# Altium schematic symbol library Wurth_Elektronik_Electromechanic_Wire_to_Board_Connectors_rev16a.SCHLIB: 662 symbols (part 6 of 10)
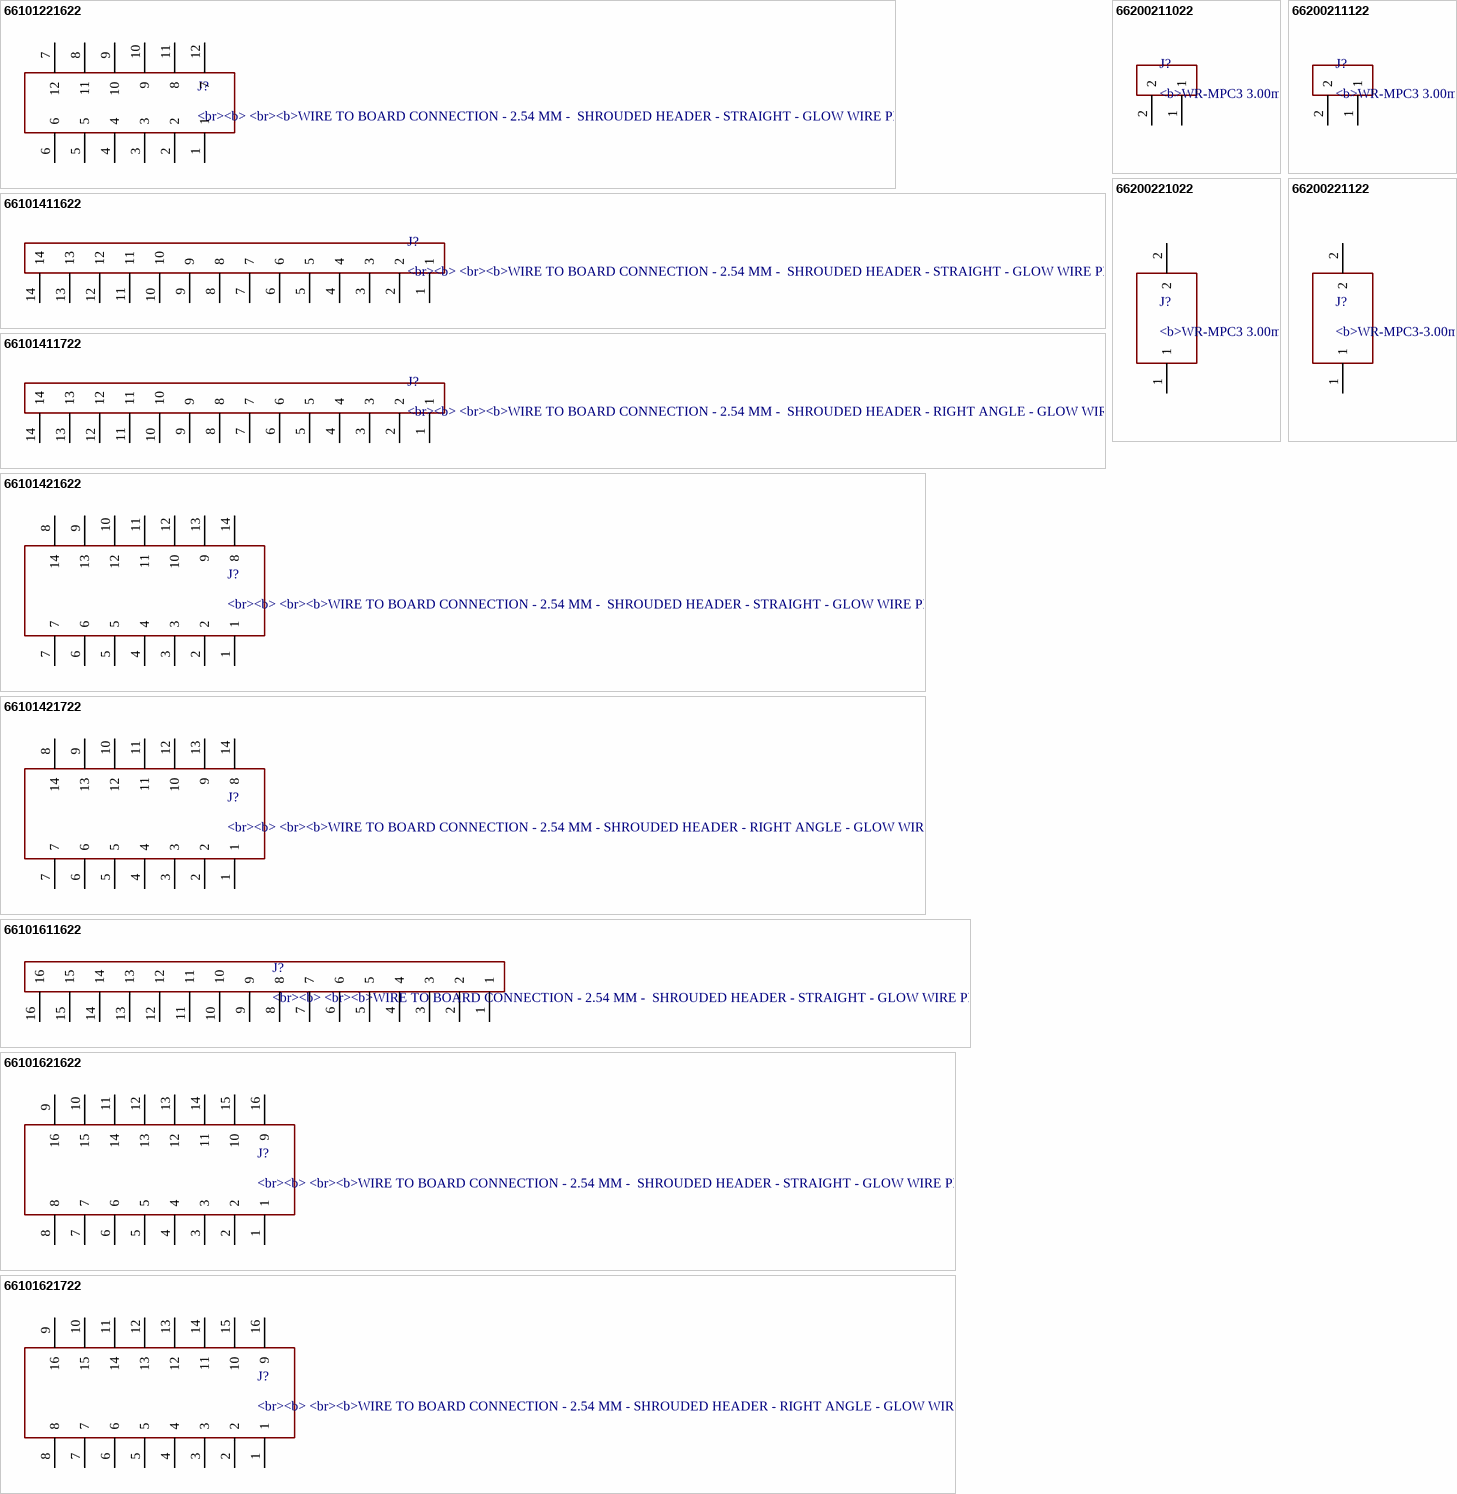
[diagram p67: symbols 66101221622 to 66200221122]

## 66200221122
designator J?, comment <b>WR-MPC3-3.00mm Male Dual Row Vertical Header,2 pins</b>=>Code : Con_WTB_MPC3_2_PCB_THT_66200221122 / <br><a href="http://katalog.we-online.de/media/thumbs2/eican/thb_Con_WTB_MPC3_2_PCB_THT_6620xx21122_pf2.jpg" title="Enlarge picture"> / <img src="http://katalog.we-online.de/media/thumbs2/eican/thb_Con_WTB_MPC3_2_PCB_THT_6620xx21122_pf2.jpg"  width="320"></a><p> / Details see: <a href="http://katalog.we-online.de/en/em/662_0xx_211_22">http://katalog.we-online.de/en/em/662_0xx_211_22</a><p> / Created 2014-06-06, Karrer Zheng<br> / 2014 (C) Würth Elektronik
footprint 66200221122
pins: 1, 2

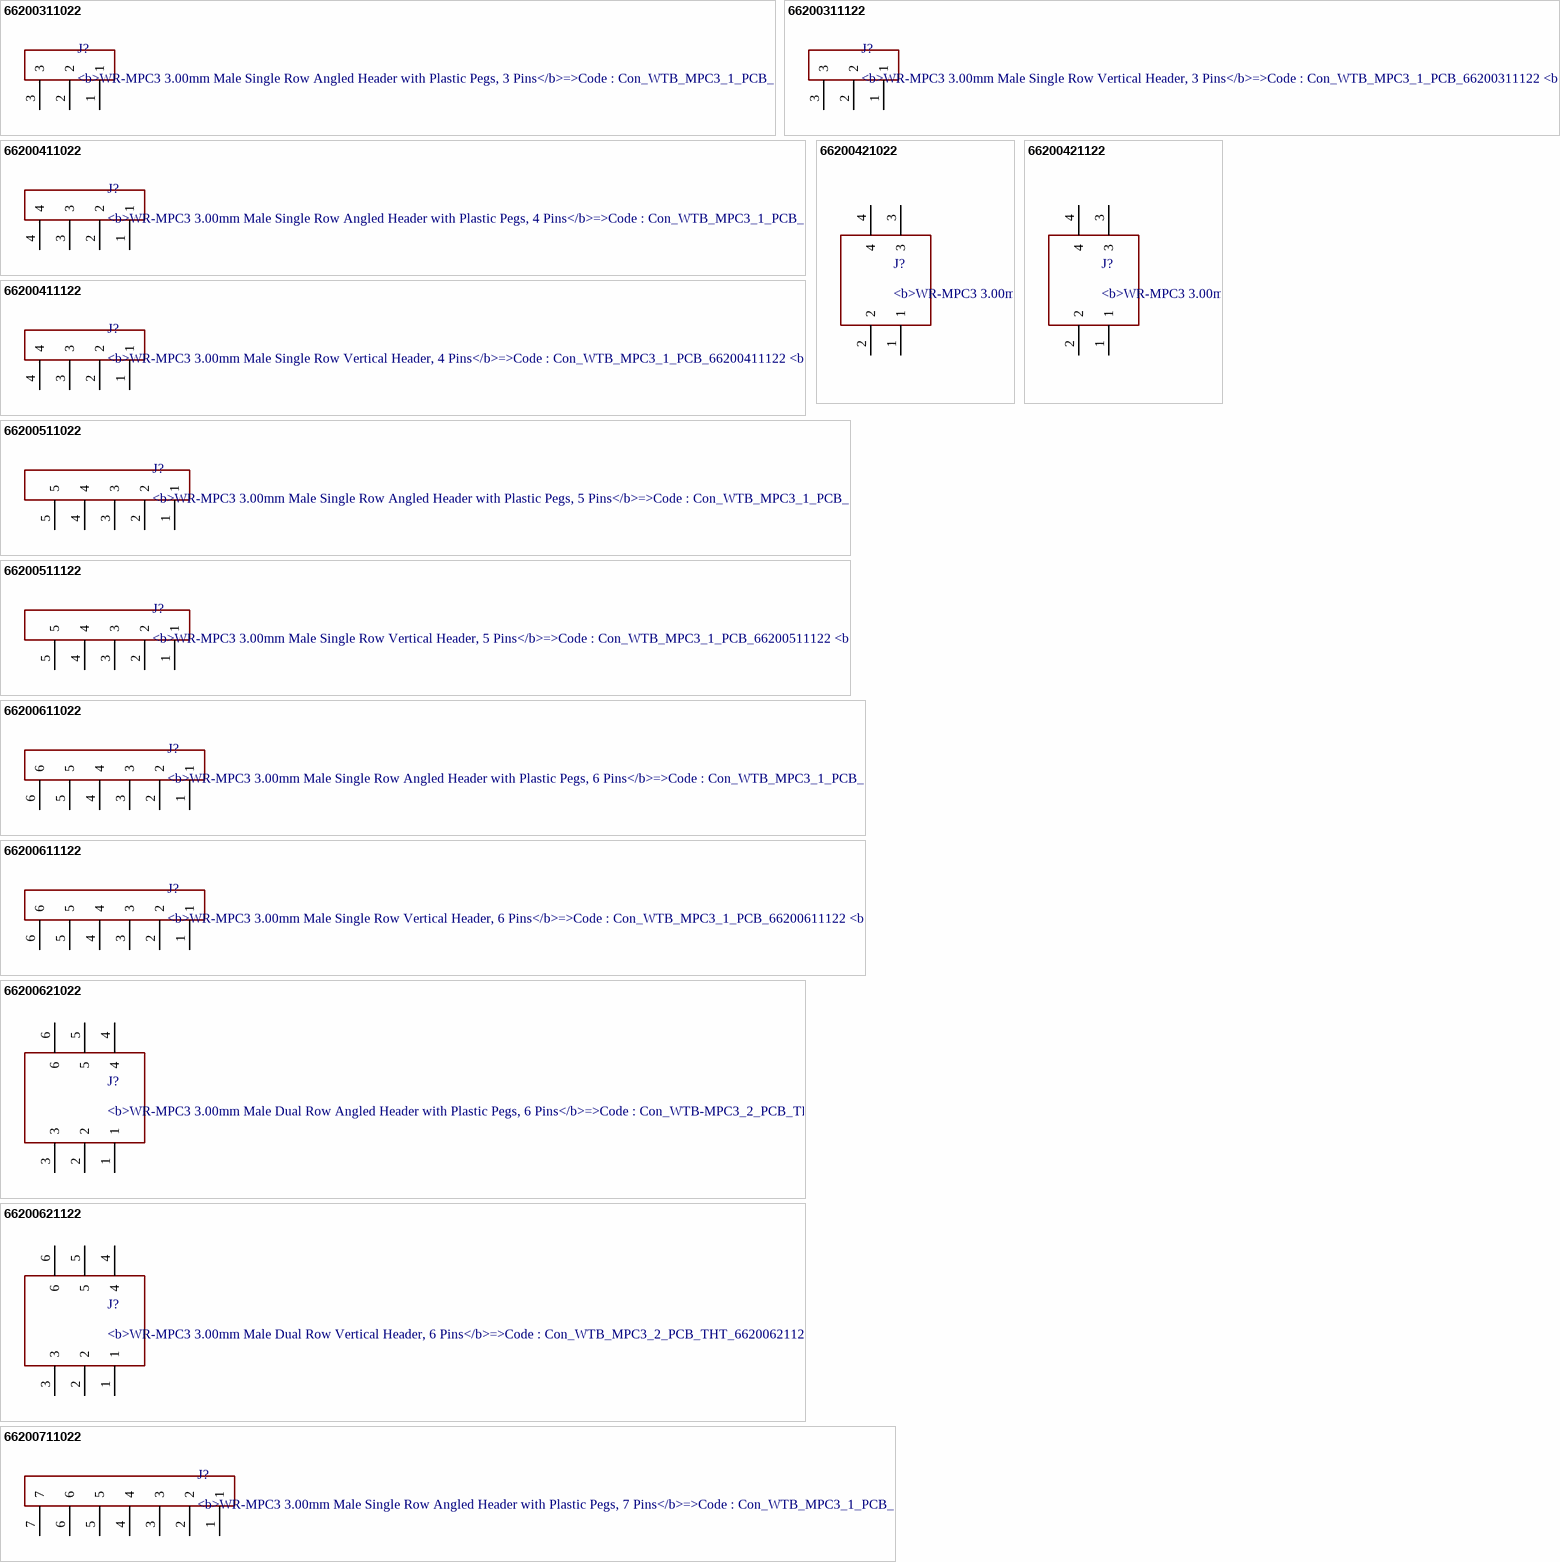
[diagram p32: symbols 66200311022 to 66200711022]

## 66200311022
designator J?, comment <b>WR-MPC3 3.00mm Male Single Row Angled Header with Plastic Pegs, 3 Pins</b>=>Code : Con_WTB_MPC3_1_PCB_66200311022 / <br><a href="http://katalog.we-online.de/media/thumbs2/eican/thb_Con_WTB_MPC3_1_PCB_6620xx11022_pf2.jpg" title="Enlarge picture"> / <img src="http://katalog.we-online.de/media/thumbs2/eican/thb_Con_WTB_MPC3_1_PCB_6620xx11022_pf2.jpg"  width="320"></a><p> / Details see: <a href="http://katalog.we-online.de/en/em/662_0xx_110_22">http://katalog.we-online.de/en/em/662_0xx_110_22</a><p> / Created 2014-06-06, Karrer Zheng<br> / 2014 (C) Würth Elektronik
footprint 66200311022
pins: 1, 2, 3

## 66200311122
designator J?, comment <b>WR-MPC3 3.00mm Male Single Row Vertical Header, 3 Pins</b>=>Code : Con_WTB_MPC3_1_PCB_66200311122 / <br><a href="http://katalog.we-online.de/media/thumbs2/eican/thb_Con_WTB_MPC3_1_PCB_6620xx11122_pf2.jpg" title="Enlarge picture"> / <img src="http://katalog.we-online.de/media/thumbs2/eican/thb_Con_WTB_MPC3_1_PCB_6620xx11122_pf2.jpg"  width="320"></a><p> / Details see: <a href="http://katalog.we-online.de/en/em/662_0xx_111_22">http://katalog.we-online.de/en/em/662_0xx_111_22</a><p> / Created 2014-06-06, Karrer Zheng<br> / 2014 (C) Würth Elektronik
footprint 66200311122
pins: 1, 2, 3

## 66200411022
designator J?, comment <b>WR-MPC3 3.00mm Male Single Row Angled Header with Plastic Pegs, 4 Pins</b>=>Code : Con_WTB_MPC3_1_PCB_66200411022 / <br><a href="http://katalog.we-online.de/media/thumbs2/eican/thb_Con_WTB_MPC3_1_PCB_6620xx11022_pf2.jpg" title="Enlarge picture"> / <img src="http://katalog.we-online.de/media/thumbs2/eican/thb_Con_WTB_MPC3_1_PCB_6620xx11022_pf2.jpg"  width="320"></a><p> / Details see: <a href="http://katalog.we-online.de/en/em/662_0xx_110_22">http://katalog.we-online.de/en/em/662_0xx_110_22</a><p> / Created 2014-06-06, Karrer Zheng<br> / 2014 (C) Würth Elektronik
footprint 66200411022
pins: 1, 2, 3, 4

## 66200411122
designator J?, comment <b>WR-MPC3 3.00mm Male Single Row Vertical Header, 4 Pins</b>=>Code : Con_WTB_MPC3_1_PCB_66200411122 / <br><a href="http://katalog.we-online.de/media/thumbs2/eican/thb_Con_WTB_MPC3_1_PCB_6620xx11122_pf2.jpg" title="Enlarge picture"> / <img src="http://katalog.we-online.de/media/thumbs2/eican/thb_Con_WTB_MPC3_1_PCB_6620xx11122_pf2.jpg"  width="320"></a><p> / Details see: <a href="http://katalog.we-online.de/en/em/662_0xx_111_22">http://katalog.we-online.de/en/em/662_0xx_111_22</a><p> / Created 2014-06-06, Karrer Zheng<br> / 2014 (C) Würth Elektronik
footprint 66200411122
pins: 1, 2, 3, 4

## 66200421022
designator J?, comment <b>WR-MPC3 3.00mm Male Dual Row Angled Header with Plastic Pegs, 4 Pins</b>=>Code : Con_WTB-MPC3_2_PCB_THT66200421022 / <br><a href="http://katalog.we-online.de/media/thumbs2/eican/thb_Con_WTB-MPC3_2_PCB_THT86220xx21022_pf2.jpg" title="Enlarge picture"> / <img src="http://katalog.we-online.de/media/thumbs2/eican/thb_Con_WTB-MPC3_2_PCB_THT86220xx21022_pf2.jpg"  width="320"></a><p> / Details see: <a href="http://katalog.we-online.de/en/em/662_0xx_210_22">http://katalog.we-online.de/en/em/662_0xx_210_22</a><p> / Created 2014-06-06, Karrer Zheng<br> / 2014 (C) Würth Elektronik
footprint 66200421022
pins: 1, 2, 3, 4

## 66200421122
designator J?, comment <b>WR-MPC3 3.00mm Male Dual Row Vertical Header, 4 Pins</b>=>Code : Con_WTB_MPC3_2_PCB_THT_66200421122 / <br><a href="http://katalog.we-online.de/media/thumbs2/eican/thb_Con_WTB_MPC3_2_PCB_THT_6620xx21122_pf2.jpg" title="Enlarge picture"> / <img src="http://katalog.we-online.de/media/thumbs2/eican/thb_Con_WTB_MPC3_2_PCB_THT_6620xx21122_pf2.jpg"  width="320"></a><p> / Details see: <a href="http://katalog.we-online.de/en/em/662_0xx_211_22">http://katalog.we-online.de/en/em/662_0xx_211_22</a><p> / Created 2014-06-06, Karrer Zheng<br> / 2014 (C) Würth Elektronik
footprint 66200421122
pins: 1, 2, 3, 4

## 66200511022
designator J?, comment <b>WR-MPC3 3.00mm Male Single Row Angled Header with Plastic Pegs, 5 Pins</b>=>Code : Con_WTB_MPC3_1_PCB_66200511022 / <br><a href="http://katalog.we-online.de/media/thumbs2/eican/thb_Con_WTB_MPC3_1_PCB_6620xx11022_pf2.jpg" title="Enlarge picture"> / <img src="http://katalog.we-online.de/media/thumbs2/eican/thb_Con_WTB_MPC3_1_PCB_6620xx11022_pf2.jpg"  width="320"></a><p> / Details see: <a href="http://katalog.we-online.de/en/em/662_0xx_110_22">http://katalog.we-online.de/en/em/662_0xx_110_22</a><p> / Created 2014-06-06, Karrer Zheng<br> / 2014 (C) Würth Elektronik
footprint 66200511022
pins: 1, 2, 3, 4, 5

## 66200511122
designator J?, comment <b>WR-MPC3 3.00mm Male Single Row Vertical Header, 5 Pins</b>=>Code : Con_WTB_MPC3_1_PCB_66200511122 / <br><a href="http://katalog.we-online.de/media/thumbs2/eican/thb_Con_WTB_MPC3_1_PCB_6620xx11122_pf2.jpg" title="Enlarge picture"> / <img src="http://katalog.we-online.de/media/thumbs2/eican/thb_Con_WTB_MPC3_1_PCB_6620xx11122_pf2.jpg"  width="320"></a><p> / Details see: <a href="http://katalog.we-online.de/en/em/662_0xx_111_22">http://katalog.we-online.de/en/em/662_0xx_111_22</a><p> / Created 2014-06-06, Karrer Zheng<br> / 2014 (C) Würth Elektronik
footprint 66200511122
pins: 1, 2, 3, 4, 5

## 66200611022
designator J?, comment <b>WR-MPC3 3.00mm Male Single Row Angled Header with Plastic Pegs, 6 Pins</b>=>Code : Con_WTB_MPC3_1_PCB_66200611022 / <br><a href="http://katalog.we-online.de/media/thumbs2/eican/thb_Con_WTB_MPC3_1_PCB_6620xx11022_pf2.jpg" title="Enlarge picture"> / <img src="http://katalog.we-online.de/media/thumbs2/eican/thb_Con_WTB_MPC3_1_PCB_6620xx11022_pf2.jpg"  width="320"></a><p> / Details see: <a href="http://katalog.we-online.de/en/em/662_0xx_110_22">http://katalog.we-online.de/en/em/662_0xx_110_22</a><p> / Created 2014-06-06, Karrer Zheng<br> / 2014 (C) Würth Elektronik
footprint 66200611022
pins: 1, 2, 3, 4, 5, 6

## 66200611122
designator J?, comment <b>WR-MPC3 3.00mm Male Single Row Vertical Header, 6 Pins</b>=>Code : Con_WTB_MPC3_1_PCB_66200611122 / <br><a href="http://katalog.we-online.de/media/thumbs2/eican/thb_Con_WTB_MPC3_1_PCB_6620xx11122_pf2.jpg" title="Enlarge picture"> / <img src="http://katalog.we-online.de/media/thumbs2/eican/thb_Con_WTB_MPC3_1_PCB_6620xx11122_pf2.jpg"  width="320"></a><p> / Details see: <a href="http://katalog.we-online.de/en/em/662_0xx_111_22">http://katalog.we-online.de/en/em/662_0xx_111_22</a><p> / Created 2014-06-06, Karrer Zheng<br> / 2014 (C) Würth Elektronik
footprint 66200611122
pins: 1, 2, 3, 4, 5, 6

## 66200621022
designator J?, comment <b>WR-MPC3 3.00mm Male Dual Row Angled Header with Plastic Pegs, 6 Pins</b>=>Code : Con_WTB-MPC3_2_PCB_THT66200621022 / <br><a href="http://katalog.we-online.de/media/thumbs2/eican/thb_Con_WTB-MPC3_2_PCB_THT86220xx21022_pf2.jpg" title="Enlarge picture"> / <img src="http://katalog.we-online.de/media/thumbs2/eican/thb_Con_WTB-MPC3_2_PCB_THT86220xx21022_pf2.jpg"  width="320"></a><p> / Details see: <a href="http://katalog.we-online.de/en/em/662_0xx_210_22">http://katalog.we-online.de/en/em/662_0xx_210_22</a><p> / Created 2014-06-06, Karrer Zheng<br> / 2014 (C) Würth Elektronik
footprint 66200621022
pins: 1, 2, 3, 4, 5, 6

## 66200621122
designator J?, comment <b>WR-MPC3 3.00mm Male Dual Row Vertical Header, 6 Pins</b>=>Code : Con_WTB_MPC3_2_PCB_THT_66200621122 / <br><a href="http://katalog.we-online.de/media/thumbs2/eican/thb_Con_WTB_MPC3_2_PCB_THT_6620xx21122_pf2.jpg" title="Enlarge picture"> / <img src="http://katalog.we-online.de/media/thumbs2/eican/thb_Con_WTB_MPC3_2_PCB_THT_6620xx21122_pf2.jpg"  width="320"></a><p> / Details see: <a href="http://katalog.we-online.de/en/em/662_0xx_211_22">http://katalog.we-online.de/en/em/662_0xx_211_22</a><p> / Created 2014-06-06, Karrer Zheng<br> / 2014 (C) Würth Elektronik
footprint 66200621122
pins: 1, 2, 3, 4, 5, 6

## 66200711022
designator J?, comment <b>WR-MPC3 3.00mm Male Single Row Angled Header with Plastic Pegs, 7 Pins</b>=>Code : Con_WTB_MPC3_1_PCB_66200711022 / <br><a href="http://katalog.we-online.de/media/thumbs2/eican/thb_Con_WTB_MPC3_1_PCB_6620xx11022_pf2.jpg" title="Enlarge picture"> / <img src="http://katalog.we-online.de/media/thumbs2/eican/thb_Con_WTB_MPC3_1_PCB_6620xx11022_pf2.jpg"  width="320"></a><p> / Details see: <a href="http://katalog.we-online.de/en/em/662_0xx_110_22">http://katalog.we-online.de/en/em/662_0xx_110_22</a><p> / Created 2014-06-06, Karrer Zheng<br> / 2014 (C) Würth Elektronik
footprint 66200711022
pins: 1, 2, 3, 4, 5, 6, 7

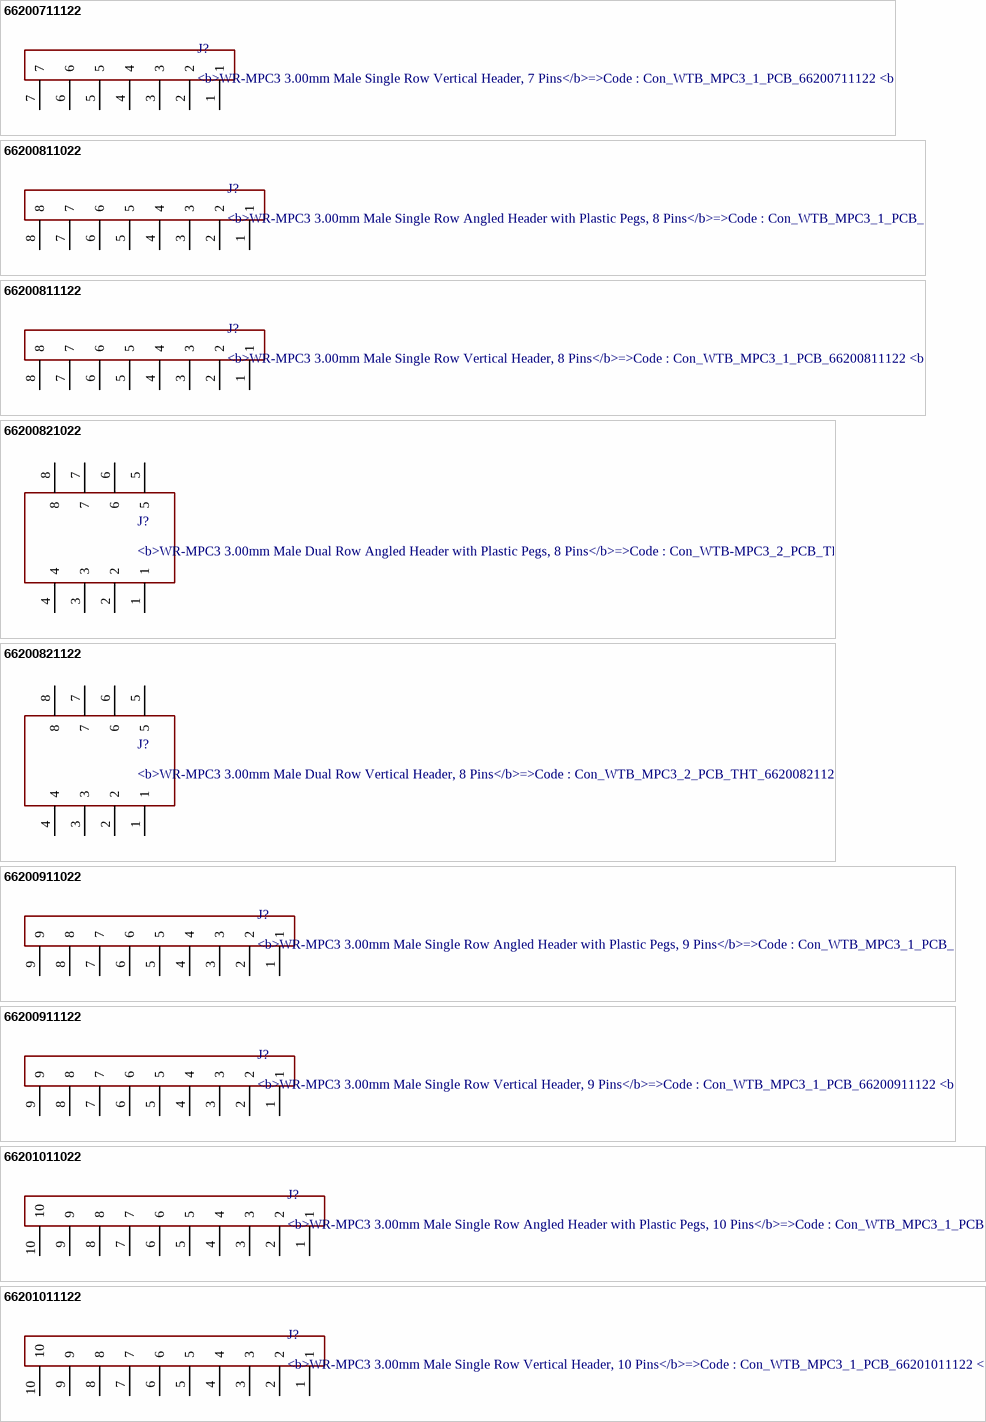
[diagram p33: symbols 66200711122 to 66201011122]

## 66200711122
designator J?, comment <b>WR-MPC3 3.00mm Male Single Row Vertical Header, 7 Pins</b>=>Code : Con_WTB_MPC3_1_PCB_66200711122 / <br><a href="http://katalog.we-online.de/media/thumbs2/eican/thb_Con_WTB_MPC3_1_PCB_6620xx11122_pf2.jpg" title="Enlarge picture"> / <img src="http://katalog.we-online.de/media/thumbs2/eican/thb_Con_WTB_MPC3_1_PCB_6620xx11122_pf2.jpg"  width="320"></a><p> / Details see: <a href="http://katalog.we-online.de/en/em/662_0xx_111_22">http://katalog.we-online.de/en/em/662_0xx_111_22</a><p> / Created 2014-06-06, Karrer Zheng<br> / 2014 (C) Würth Elektronik
footprint 66200711122
pins: 1, 2, 3, 4, 5, 6, 7

## 66200811022
designator J?, comment <b>WR-MPC3 3.00mm Male Single Row Angled Header with Plastic Pegs, 8 Pins</b>=>Code : Con_WTB_MPC3_1_PCB_66200811022 / <br><a href="http://katalog.we-online.de/media/thumbs2/eican/thb_Con_WTB_MPC3_1_PCB_6620xx11022_pf2.jpg" title="Enlarge picture"> / <img src="http://katalog.we-online.de/media/thumbs2/eican/thb_Con_WTB_MPC3_1_PCB_6620xx11022_pf2.jpg"  width="320"></a><p> / Details see: <a href="http://katalog.we-online.de/en/em/662_0xx_110_22">http://katalog.we-online.de/en/em/662_0xx_110_22</a><p> / Created 2014-06-06, Karrer Zheng<br> / 2014 (C) Würth Elektronik
footprint 66200811022
pins: 1, 2, 3, 4, 5, 6, 7, 8

## 66200811122
designator J?, comment <b>WR-MPC3 3.00mm Male Single Row Vertical Header, 8 Pins</b>=>Code : Con_WTB_MPC3_1_PCB_66200811122 / <br><a href="http://katalog.we-online.de/media/thumbs2/eican/thb_Con_WTB_MPC3_1_PCB_6620xx11122_pf2.jpg" title="Enlarge picture"> / <img src="http://katalog.we-online.de/media/thumbs2/eican/thb_Con_WTB_MPC3_1_PCB_6620xx11122_pf2.jpg"  width="320"></a><p> / Details see: <a href="http://katalog.we-online.de/en/em/662_0xx_111_22">http://katalog.we-online.de/en/em/662_0xx_111_22</a><p> / Created 2014-06-06, Karrer Zheng<br> / 2014 (C) Würth Elektronik
footprint 66200811122
pins: 1, 2, 3, 4, 5, 6, 7, 8

## 66200821022
designator J?, comment <b>WR-MPC3 3.00mm Male Dual Row Angled Header with Plastic Pegs, 8 Pins</b>=>Code : Con_WTB-MPC3_2_PCB_THT66200821022 / <br><a href="http://katalog.we-online.de/media/thumbs2/eican/thb_Con_WTB-MPC3_2_PCB_THT86220xx21022_pf2.jpg" title="Enlarge picture"> / <img src="http://katalog.we-online.de/media/thumbs2/eican/thb_Con_WTB-MPC3_2_PCB_THT86220xx21022_pf2.jpg"  width="320"></a><p> / Details see: <a href="http://katalog.we-online.de/en/em/662_0xx_210_22">http://katalog.we-online.de/en/em/662_0xx_210_22</a><p> / Created 2014-06-06, Karrer Zheng<br> / 2014 (C) Würth Elektronik
footprint 66200821022
pins: 1, 2, 3, 4, 5, 6, 7, 8

## 66200821122
designator J?, comment <b>WR-MPC3 3.00mm Male Dual Row Vertical Header, 8 Pins</b>=>Code : Con_WTB_MPC3_2_PCB_THT_66200821122 / <br><a href="http://katalog.we-online.de/media/thumbs2/eican/thb_Con_WTB_MPC3_2_PCB_THT_6620xx21122_pf2.jpg" title="Enlarge picture"> / <img src="http://katalog.we-online.de/media/thumbs2/eican/thb_Con_WTB_MPC3_2_PCB_THT_6620xx21122_pf2.jpg"  width="320"></a><p> / Details see: <a href="http://katalog.we-online.de/en/em/662_0xx_211_22">http://katalog.we-online.de/en/em/662_0xx_211_22</a><p> / Created 2014-06-06, Karrer Zheng<br> / 2014 (C) Würth Elektronik
footprint 66200821122
pins: 1, 2, 3, 4, 5, 6, 7, 8

## 66200911022
designator J?, comment <b>WR-MPC3 3.00mm Male Single Row Angled Header with Plastic Pegs, 9 Pins</b>=>Code : Con_WTB_MPC3_1_PCB_66200911022 / <br><a href="http://katalog.we-online.de/media/thumbs2/eican/thb_Con_WTB_MPC3_1_PCB_6620xx11022_pf2.jpg" title="Enlarge picture"> / <img src="http://katalog.we-online.de/media/thumbs2/eican/thb_Con_WTB_MPC3_1_PCB_6620xx11022_pf2.jpg"  width="320"></a><p> / Details see: <a href="http://katalog.we-online.de/en/em/662_0xx_110_22">http://katalog.we-online.de/en/em/662_0xx_110_22</a><p> / Created 2014-06-06, Karrer Zheng<br> / 2014 (C) Würth Elektronik
footprint 66200911022
pins: 1, 2, 3, 4, 5, 6, 7, 8, 9

## 66200911122
designator J?, comment <b>WR-MPC3 3.00mm Male Single Row Vertical Header, 9 Pins</b>=>Code : Con_WTB_MPC3_1_PCB_66200911122 / <br><a href="http://katalog.we-online.de/media/thumbs2/eican/thb_Con_WTB_MPC3_1_PCB_6620xx11122_pf2.jpg" title="Enlarge picture"> / <img src="http://katalog.we-online.de/media/thumbs2/eican/thb_Con_WTB_MPC3_1_PCB_6620xx11122_pf2.jpg"  width="320"></a><p> / Details see: <a href="http://katalog.we-online.de/en/em/662_0xx_111_22">http://katalog.we-online.de/en/em/662_0xx_111_22</a><p> / Created 2014-06-06, Karrer Zheng<br> / 2014 (C) Würth Elektronik
footprint 66200911122
pins: 1, 2, 3, 4, 5, 6, 7, 8, 9

## 66201011022
designator J?, comment <b>WR-MPC3 3.00mm Male Single Row Angled Header with Plastic Pegs, 10 Pins</b>=>Code : Con_WTB_MPC3_1_PCB_66201011022 / <br><a href="http://katalog.we-online.de/media/thumbs2/eican/thb_Con_WTB_MPC3_1_PCB_6620xx11022_pf2.jpg" title="Enlarge picture"> / <img src="http://katalog.we-online.de/media/thumbs2/eican/thb_Con_WTB_MPC3_1_PCB_6620xx11022_pf2.jpg"  width="320"></a><p> / Details see: <a href="http://katalog.we-online.de/en/em/662_0xx_110_22">http://katalog.we-online.de/en/em/662_0xx_110_22</a><p> / Created 2014-06-06, Karrer Zheng<br> / 2014 (C) Würth Elektronik
footprint 66201011022
pins: 1, 2, 3, 4, 5, 6, 7, 8, 9, 10

## 66201011122
designator J?, comment <b>WR-MPC3 3.00mm Male Single Row Vertical Header, 10 Pins</b>=>Code : Con_WTB_MPC3_1_PCB_66201011122 / <br><a href="http://katalog.we-online.de/media/thumbs2/eican/thb_Con_WTB_MPC3_1_PCB_6620xx11122_pf2.jpg" title="Enlarge picture"> / <img src="http://katalog.we-online.de/media/thumbs2/eican/thb_Con_WTB_MPC3_1_PCB_6620xx11122_pf2.jpg"  width="320"></a><p> / Details see: <a href="http://katalog.we-online.de/en/em/662_0xx_111_22">http://katalog.we-online.de/en/em/662_0xx_111_22</a><p> / Created 2014-06-06, Karrer Zheng<br> / 2014 (C) Würth Elektronik
footprint 66201011122
pins: 1, 2, 3, 4, 5, 6, 7, 8, 9, 10

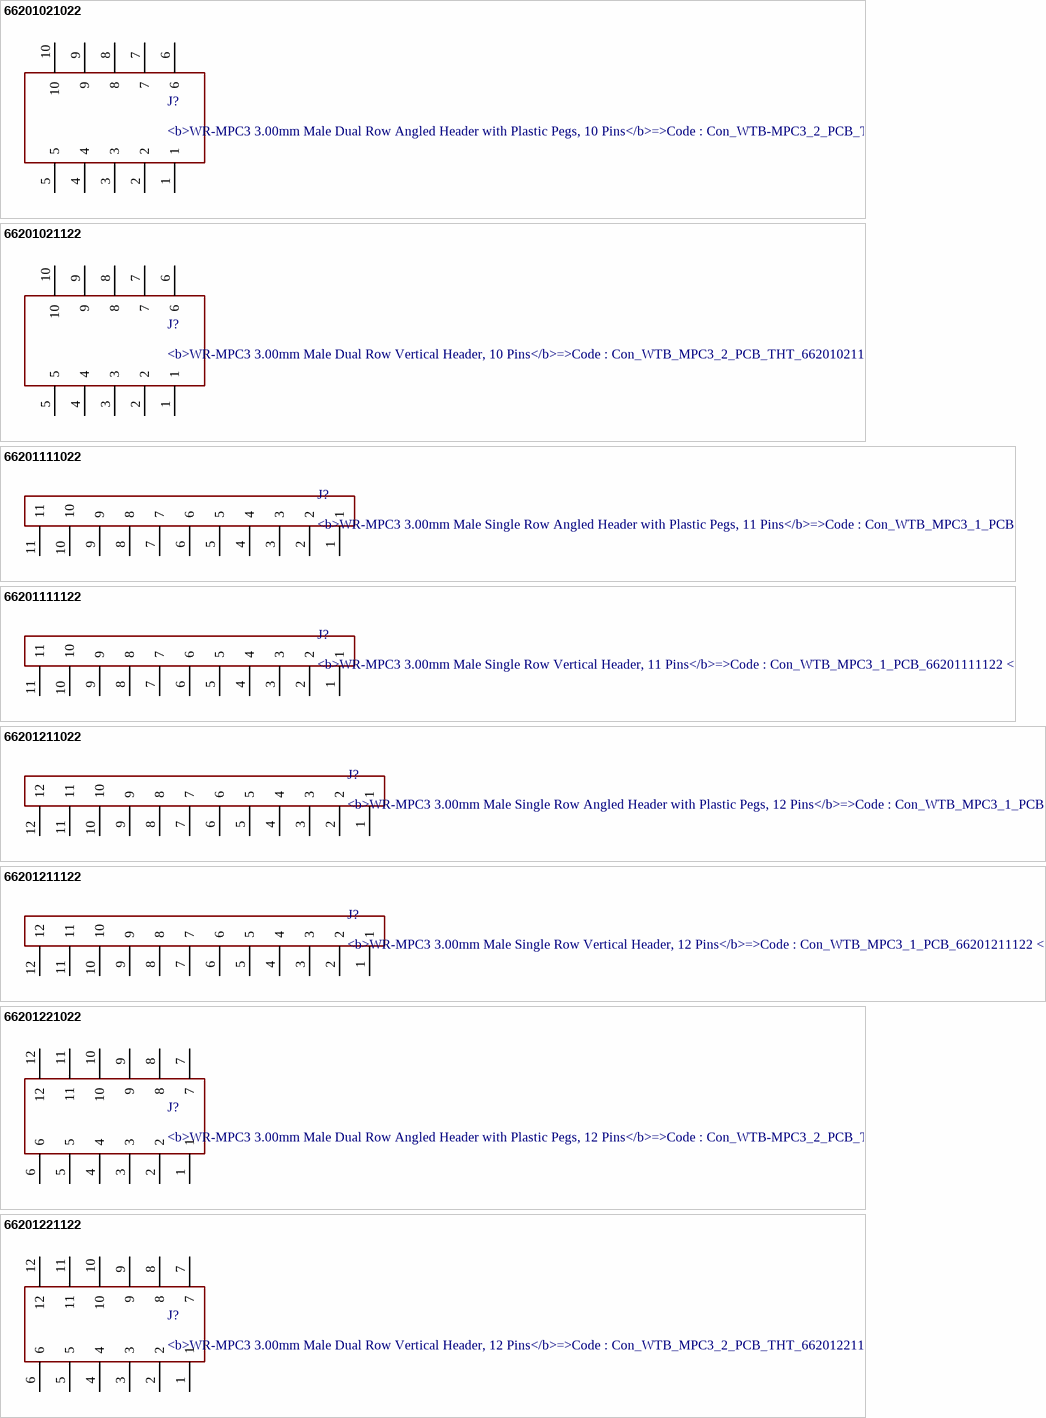
[diagram p34: symbols 66201021022 to 66201221122]

## 66201021022
designator J?, comment <b>WR-MPC3 3.00mm Male Dual Row Angled Header with Plastic Pegs, 10 Pins</b>=>Code : Con_WTB-MPC3_2_PCB_THT66201021022 / <br><a href="http://katalog.we-online.de/media/thumbs2/eican/thb_Con_WTB-MPC3_2_PCB_THT86220xx21022_pf2.jpg" title="Enlarge picture"> / <img src="http://katalog.we-online.de/media/thumbs2/eican/thb_Con_WTB-MPC3_2_PCB_THT86220xx21022_pf2.jpg"  width="320"></a><p> / Details see: <a href="http://katalog.we-online.de/en/em/662_0xx_210_22">http://katalog.we-online.de/en/em/662_0xx_210_22</a><p> / Created 2014-06-06, Karrer Zheng<br> / 2014 (C) Würth Elektronik
footprint 66201021022
pins: 1, 2, 3, 4, 5, 6, 7, 8, 9, 10

## 66201021122
designator J?, comment <b>WR-MPC3 3.00mm Male Dual Row Vertical Header, 10 Pins</b>=>Code : Con_WTB_MPC3_2_PCB_THT_66201021122 / <br><a href="http://katalog.we-online.de/media/thumbs2/eican/thb_Con_WTB_MPC3_2_PCB_THT_6620xx21122_pf2.jpg" title="Enlarge picture"> / <img src="http://katalog.we-online.de/media/thumbs2/eican/thb_Con_WTB_MPC3_2_PCB_THT_6620xx21122_pf2.jpg"  width="320"></a><p> / Details see: <a href="http://katalog.we-online.de/en/em/662_0xx_211_22">http://katalog.we-online.de/en/em/662_0xx_211_22</a><p> / Created 2014-06-06, Karrer Zheng<br> / 2014 (C) Würth Elektronik
footprint 66201021122
pins: 1, 2, 3, 4, 5, 6, 7, 8, 9, 10

## 66201111022
designator J?, comment <b>WR-MPC3 3.00mm Male Single Row Angled Header with Plastic Pegs, 11 Pins</b>=>Code : Con_WTB_MPC3_1_PCB_66201111022 / <br><a href="http://katalog.we-online.de/media/thumbs2/eican/thb_Con_WTB_MPC3_1_PCB_6620xx11022_pf2.jpg" title="Enlarge picture"> / <img src="http://katalog.we-online.de/media/thumbs2/eican/thb_Con_WTB_MPC3_1_PCB_6620xx11022_pf2.jpg"  width="320"></a><p> / Details see: <a href="http://katalog.we-online.de/en/em/662_0xx_110_22">http://katalog.we-online.de/en/em/662_0xx_110_22</a><p> / Created 2014-06-06, Karrer Zheng<br> / 2014 (C) Würth Elektronik
footprint 66201111022
pins: 1, 2, 3, 4, 5, 6, 7, 8, 9, 10, 11

## 66201111122
designator J?, comment <b>WR-MPC3 3.00mm Male Single Row Vertical Header, 11 Pins</b>=>Code : Con_WTB_MPC3_1_PCB_66201111122 / <br><a href="http://katalog.we-online.de/media/thumbs2/eican/thb_Con_WTB_MPC3_1_PCB_6620xx11122_pf2.jpg" title="Enlarge picture"> / <img src="http://katalog.we-online.de/media/thumbs2/eican/thb_Con_WTB_MPC3_1_PCB_6620xx11122_pf2.jpg"  width="320"></a><p> / Details see: <a href="http://katalog.we-online.de/en/em/662_0xx_111_22">http://katalog.we-online.de/en/em/662_0xx_111_22</a><p> / Created 2014-06-06, Karrer Zheng<br> / 2014 (C) Würth Elektronik
footprint 66201111122
pins: 1, 2, 3, 4, 5, 6, 7, 8, 9, 10, 11

## 66201211022
designator J?, comment <b>WR-MPC3 3.00mm Male Single Row Angled Header with Plastic Pegs, 12 Pins</b>=>Code : Con_WTB_MPC3_1_PCB_66201211022 / <br><a href="http://katalog.we-online.de/media/thumbs2/eican/thb_Con_WTB_MPC3_1_PCB_6620xx11022_pf2.jpg" title="Enlarge picture"> / <img src="http://katalog.we-online.de/media/thumbs2/eican/thb_Con_WTB_MPC3_1_PCB_6620xx11022_pf2.jpg"  width="320"></a><p> / Details see: <a href="http://katalog.we-online.de/en/em/662_0xx_110_22">http://katalog.we-online.de/en/em/662_0xx_110_22</a><p> / Created 2014-06-06, Karrer Zheng<br> / 2014 (C) Würth Elektronik
footprint 66201211022
pins: 1, 2, 3, 4, 5, 6, 7, 8, 9, 10, 11, 12

## 66201211122
designator J?, comment <b>WR-MPC3 3.00mm Male Single Row Vertical Header, 12 Pins</b>=>Code : Con_WTB_MPC3_1_PCB_66201211122 / <br><a href="http://katalog.we-online.de/media/thumbs2/eican/thb_Con_WTB_MPC3_1_PCB_6620xx11122_pf2.jpg" title="Enlarge picture"> / <img src="http://katalog.we-online.de/media/thumbs2/eican/thb_Con_WTB_MPC3_1_PCB_6620xx11122_pf2.jpg"  width="320"></a><p> / Details see: <a href="http://katalog.we-online.de/en/em/662_0xx_111_22">http://katalog.we-online.de/en/em/662_0xx_111_22</a><p> / Created 2014-06-06, Karrer Zheng<br> / 2014 (C) Würth Elektronik
footprint 66201211122
pins: 1, 2, 3, 4, 5, 6, 7, 8, 9, 10, 11, 12

## 66201221022
designator J?, comment <b>WR-MPC3 3.00mm Male Dual Row Angled Header with Plastic Pegs, 12 Pins</b>=>Code : Con_WTB-MPC3_2_PCB_THT66201221022 / <br><a href="http://katalog.we-online.de/media/thumbs2/eican/thb_Con_WTB-MPC3_2_PCB_THT86220xx21022_pf2.jpg" title="Enlarge picture"> / <img src="http://katalog.we-online.de/media/thumbs2/eican/thb_Con_WTB-MPC3_2_PCB_THT86220xx21022_pf2.jpg"  width="320"></a><p> / Details see: <a href="http://katalog.we-online.de/en/em/662_0xx_210_22">http://katalog.we-online.de/en/em/662_0xx_210_22</a><p> / Created 2014-06-06, Karrer Zheng<br> / 2014 (C) Würth Elektronik
footprint 66201221022
pins: 1, 2, 3, 4, 5, 6, 7 (hiz), 8, 9, 10, 11, 12

## 66201221122
designator J?, comment <b>WR-MPC3 3.00mm Male Dual Row Vertical Header, 12 Pins</b>=>Code : Con_WTB_MPC3_2_PCB_THT_66201221122 / <br><a href="http://katalog.we-online.de/media/thumbs2/eican/thb_Con_WTB_MPC3_2_PCB_THT_6620xx21122_pf2.jpg" title="Enlarge picture"> / <img src="http://katalog.we-online.de/media/thumbs2/eican/thb_Con_WTB_MPC3_2_PCB_THT_6620xx21122_pf2.jpg"  width="320"></a><p> / Details see: <a href="http://katalog.we-online.de/en/em/662_0xx_211_22">http://katalog.we-online.de/en/em/662_0xx_211_22</a><p> / Created 2014-06-06, Karrer Zheng<br> / 2014 (C) Würth Elektronik
footprint 66201221122
pins: 1, 2, 3, 4, 5, 6, 7 (hiz), 8, 9, 10, 11, 12

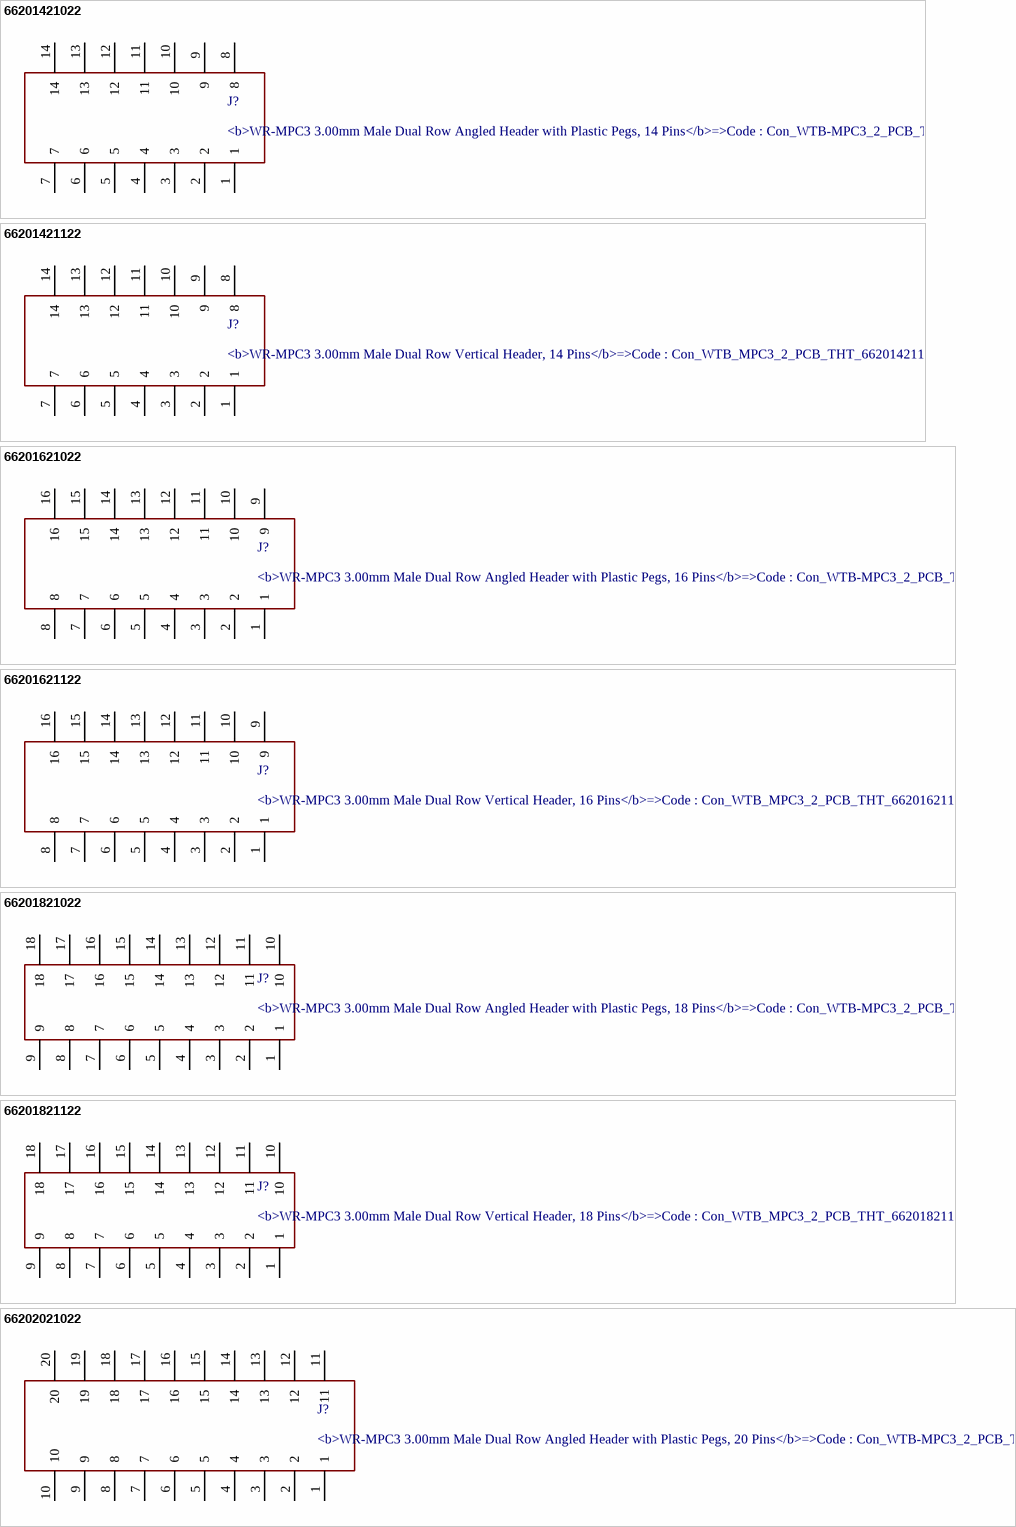
[diagram p35: symbols 66201421022 to 66202021022]

## 66201421022
designator J?, comment <b>WR-MPC3 3.00mm Male Dual Row Angled Header with Plastic Pegs, 14 Pins</b>=>Code : Con_WTB-MPC3_2_PCB_THT66201421022 / <br><a href="http://katalog.we-online.de/media/thumbs2/eican/thb_Con_WTB-MPC3_2_PCB_THT86220xx21022_pf2.jpg" title="Enlarge picture"> / <img src="http://katalog.we-online.de/media/thumbs2/eican/thb_Con_WTB-MPC3_2_PCB_THT86220xx21022_pf2.jpg"  width="320"></a><p> / Details see: <a href="http://katalog.we-online.de/en/em/662_0xx_210_22">http://katalog.we-online.de/en/em/662_0xx_210_22</a><p> / Created 2014-06-06, Karrer Zheng<br> / 2014 (C) Würth Elektronik
footprint 66201421022
pins: 1, 2, 3, 4, 5, 6, 7, 8, 9, 10, 11, 12, 13, 14

## 66201421122
designator J?, comment <b>WR-MPC3 3.00mm Male Dual Row Vertical Header, 14 Pins</b>=>Code : Con_WTB_MPC3_2_PCB_THT_66201421122 / <br><a href="http://katalog.we-online.de/media/thumbs2/eican/thb_Con_WTB_MPC3_2_PCB_THT_6620xx21122_pf2.jpg" title="Enlarge picture"> / <img src="http://katalog.we-online.de/media/thumbs2/eican/thb_Con_WTB_MPC3_2_PCB_THT_6620xx21122_pf2.jpg"  width="320"></a><p> / Details see: <a href="http://katalog.we-online.de/en/em/662_0xx_211_22">http://katalog.we-online.de/en/em/662_0xx_211_22</a><p> / Created 2014-06-06, Karrer Zheng<br> / 2014 (C) Würth Elektronik
footprint 66201421122
pins: 1, 2, 3, 4, 5, 6, 7, 8, 9, 10, 11, 12, 13, 14

## 66201621022
designator J?, comment <b>WR-MPC3 3.00mm Male Dual Row Angled Header with Plastic Pegs, 16 Pins</b>=>Code : Con_WTB-MPC3_2_PCB_THT66201621022 / <br><a href="http://katalog.we-online.de/media/thumbs2/eican/thb_Con_WTB-MPC3_2_PCB_THT86220xx21022_pf2.jpg" title="Enlarge picture"> / <img src="http://katalog.we-online.de/media/thumbs2/eican/thb_Con_WTB-MPC3_2_PCB_THT86220xx21022_pf2.jpg"  width="320"></a><p> / Details see: <a href="http://katalog.we-online.de/en/em/662_0xx_210_22">http://katalog.we-online.de/en/em/662_0xx_210_22</a><p> / Created 2014-06-06, Karrer Zheng<br> / 2014 (C) Würth Elektronik
footprint 66201621022
pins: 1, 2, 3, 4, 5, 6, 7, 8, 9, 10, 11, 12, 13, 14, 15, 16

## 66201621122
designator J?, comment <b>WR-MPC3 3.00mm Male Dual Row Vertical Header, 16 Pins</b>=>Code : Con_WTB_MPC3_2_PCB_THT_66201621122 / <br><a href="http://katalog.we-online.de/media/thumbs2/eican/thb_Con_WTB_MPC3_2_PCB_THT_6620xx21122_pf2.jpg" title="Enlarge picture"> / <img src="http://katalog.we-online.de/media/thumbs2/eican/thb_Con_WTB_MPC3_2_PCB_THT_6620xx21122_pf2.jpg"  width="320"></a><p> / Details see: <a href="http://katalog.we-online.de/en/em/662_0xx_211_22">http://katalog.we-online.de/en/em/662_0xx_211_22</a><p> / Created 2014-06-06, Karrer Zheng<br> / 2014 (C) Würth Elektronik
footprint 66201621122
pins: 1, 2, 3, 4, 5, 6, 7, 8, 9, 10, 11, 12, 13, 14, 15, 16

## 66201821022
designator J?, comment <b>WR-MPC3 3.00mm Male Dual Row Angled Header with Plastic Pegs, 18 Pins</b>=>Code : Con_WTB-MPC3_2_PCB_THT66201821022 / <br><a href="http://katalog.we-online.de/media/thumbs2/eican/thb_Con_WTB-MPC3_2_PCB_THT86220xx21022_pf2.jpg" title="Enlarge picture"> / <img src="http://katalog.we-online.de/media/thumbs2/eican/thb_Con_WTB-MPC3_2_PCB_THT86220xx21022_pf2.jpg"  width="320"></a><p> / Details see: <a href="http://katalog.we-online.de/en/em/662_0xx_210_22">http://katalog.we-online.de/en/em/662_0xx_210_22</a><p> / Created 2014-06-06, Karrer Zheng<br> / 2014 (C) Würth Elektronik
footprint 66201821022
pins: 1, 2, 3, 4, 5, 6, 7, 8, 9, 10, 11, 12, 13, 14, 15, 16, 17, 18

## 66201821122
designator J?, comment <b>WR-MPC3 3.00mm Male Dual Row Vertical Header, 18 Pins</b>=>Code : Con_WTB_MPC3_2_PCB_THT_66201821122 / <br><a href="http://katalog.we-online.de/media/thumbs2/eican/thb_Con_WTB_MPC3_2_PCB_THT_6620xx21122_pf2.jpg" title="Enlarge picture"> / <img src="http://katalog.we-online.de/media/thumbs2/eican/thb_Con_WTB_MPC3_2_PCB_THT_6620xx21122_pf2.jpg"  width="320"></a><p> / Details see: <a href="http://katalog.we-online.de/en/em/662_0xx_211_22">http://katalog.we-online.de/en/em/662_0xx_211_22</a><p> / Created 2014-06-06, Karrer Zheng<br> / 2014 (C) Würth Elektronik
footprint 66201821122
pins: 1, 2, 3, 4, 5, 6, 7, 8, 9, 10, 11, 12, 13, 14, 15, 16, 17, 18

## 66202021022
designator J?, comment <b>WR-MPC3 3.00mm Male Dual Row Angled Header with Plastic Pegs, 20 Pins</b>=>Code : Con_WTB-MPC3_2_PCB_THT66202021022 / <br><a href="http://katalog.we-online.de/media/thumbs2/eican/thb_Con_WTB-MPC3_2_PCB_THT86220xx21022_pf2.jpg" title="Enlarge picture"> / <img src="http://katalog.we-online.de/media/thumbs2/eican/thb_Con_WTB-MPC3_2_PCB_THT86220xx21022_pf2.jpg"  width="320"></a><p> / Details see: <a href="http://katalog.we-online.de/en/em/662_0xx_210_22">http://katalog.we-online.de/en/em/662_0xx_210_22</a><p> / Created 2014-06-06, Karrer Zheng<br> / 2014 (C) Würth Elektronik
footprint 66202021022
pins: 1, 2, 3, 4, 5, 6, 7, 8, 9, 10, 11, 12, 13, 14, 15, 16, 17, 18, 19, 20

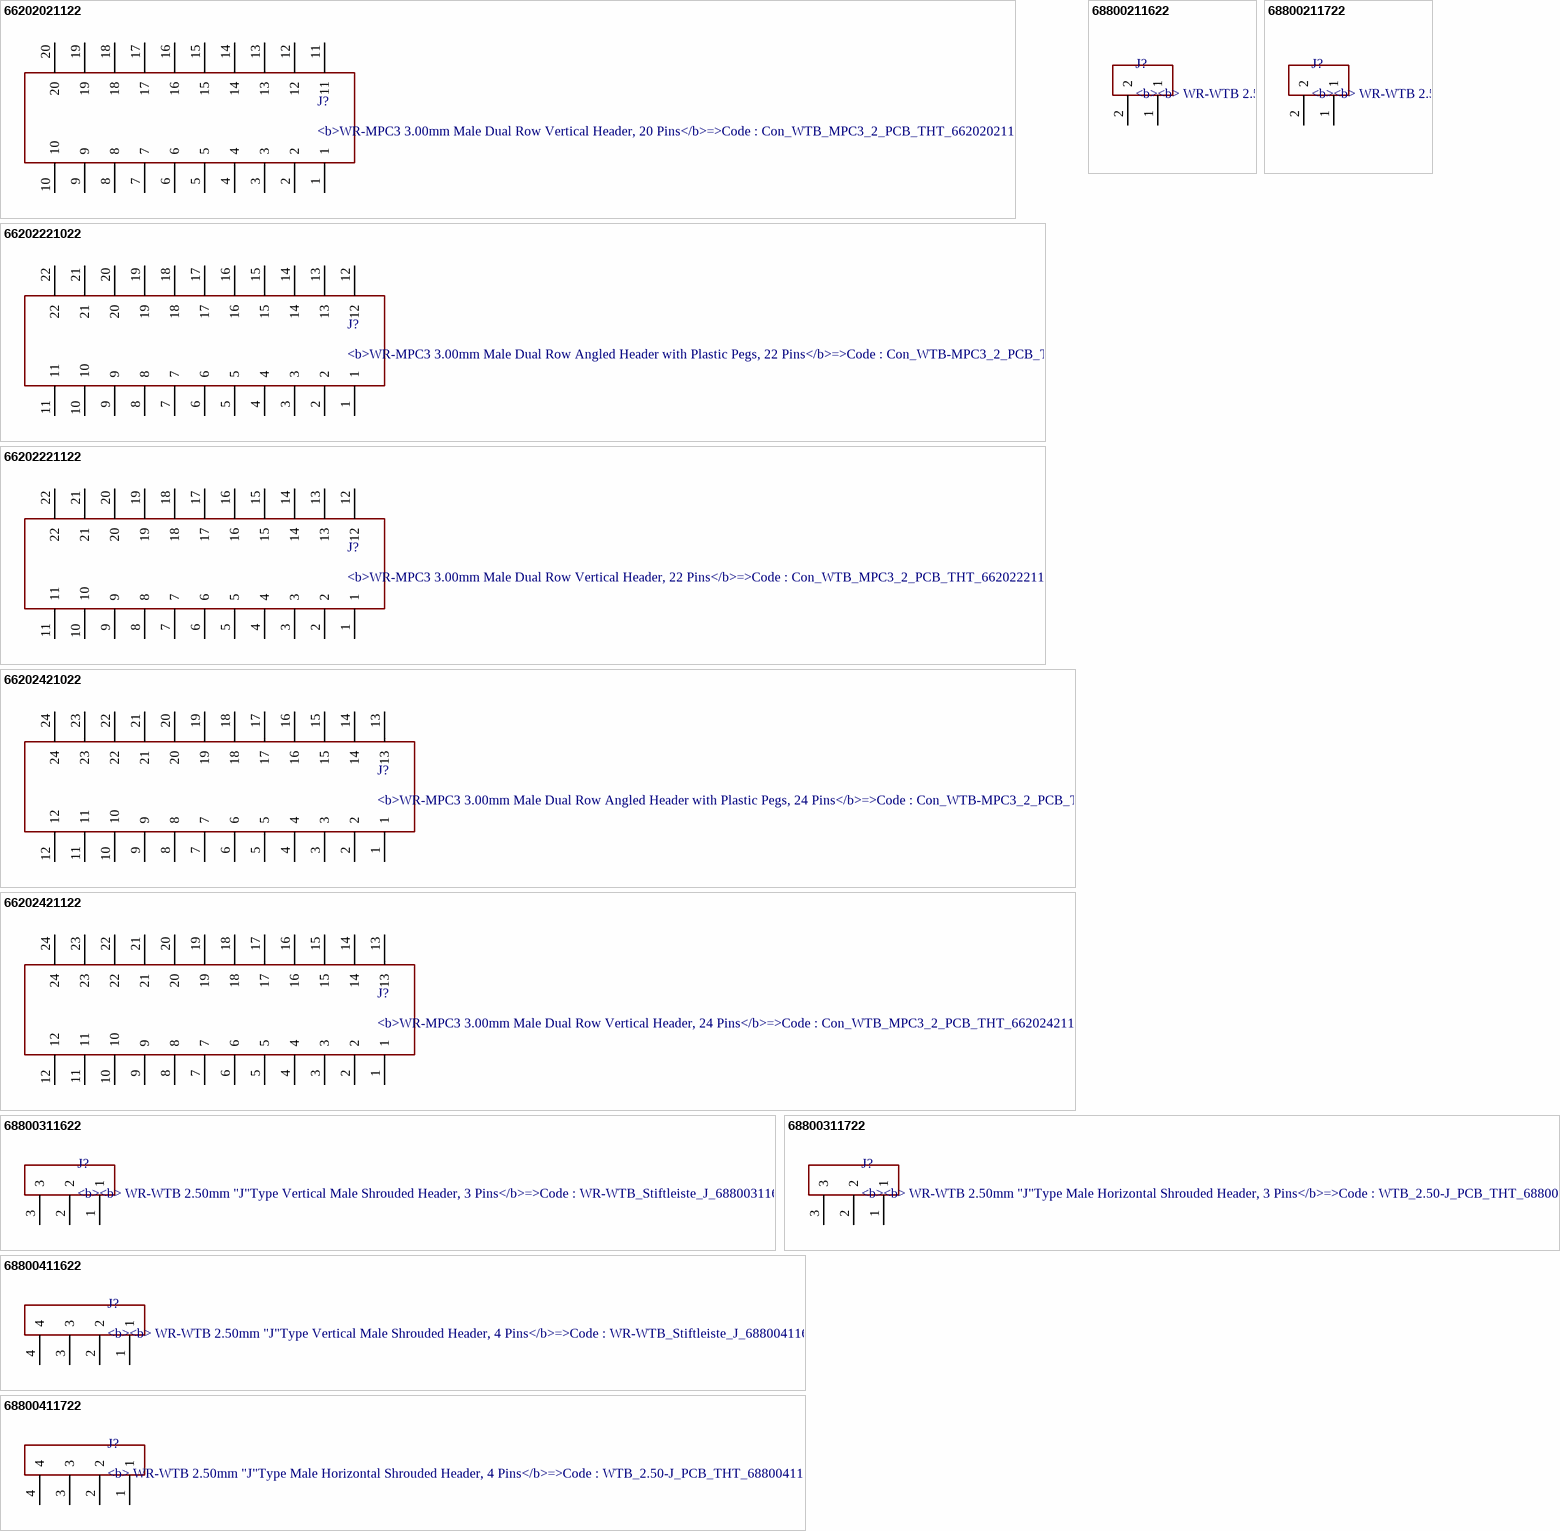
[diagram p36: symbols 66202021122 to 68800411722]

## 66202021122
designator J?, comment <b>WR-MPC3 3.00mm Male Dual Row Vertical Header, 20 Pins</b>=>Code : Con_WTB_MPC3_2_PCB_THT_66202021122 / <br><a href="http://katalog.we-online.de/media/thumbs2/eican/thb_Con_WTB_MPC3_2_PCB_THT_6620xx21122_pf2.jpg" title="Enlarge picture"> / <img src="http://katalog.we-online.de/media/thumbs2/eican/thb_Con_WTB_MPC3_2_PCB_THT_6620xx21122_pf2.jpg"  width="320"></a><p> / Details see: <a href="http://katalog.we-online.de/en/em/662_0xx_211_22">http://katalog.we-online.de/en/em/662_0xx_211_22</a><p> / Created 2014-06-06, Karrer Zheng<br> / 2014 (C) Würth Elektronik
footprint 66202021122
pins: 1, 2, 3, 4, 5, 6, 7, 8, 9, 10, 11, 12, 13, 14, 15, 16, 17, 18, 19, 20

## 66202221022
designator J?, comment <b>WR-MPC3 3.00mm Male Dual Row Angled Header with Plastic Pegs, 22 Pins</b>=>Code : Con_WTB-MPC3_2_PCB_THT66202221022 / <br><a href="http://katalog.we-online.de/media/thumbs2/eican/thb_Con_WTB-MPC3_2_PCB_THT86220xx21022_pf2.jpg" title="Enlarge picture"> / <img src="http://katalog.we-online.de/media/thumbs2/eican/thb_Con_WTB-MPC3_2_PCB_THT86220xx21022_pf2.jpg"  width="320"></a><p> / Details see: <a href="http://katalog.we-online.de/en/em/662_0xx_210_22">http://katalog.we-online.de/en/em/662_0xx_210_22</a><p> / Created 2014-06-06, Karrer Zheng<br> / 2014 (C) Würth Elektronik
footprint 66202221022
pins: 1, 2, 3, 4, 5 (oe), 6, 7, 8, 9, 10, 11, 12, 13, 14, 15, 16, 17, 18 (hiz), 19, 20, 21, 22

## 66202221122
designator J?, comment <b>WR-MPC3 3.00mm Male Dual Row Vertical Header, 22 Pins</b>=>Code : Con_WTB_MPC3_2_PCB_THT_66202221122 / <br><a href="http://katalog.we-online.de/media/thumbs2/eican/thb_Con_WTB_MPC3_2_PCB_THT_6620xx21122_pf2.jpg" title="Enlarge picture"> / <img src="http://katalog.we-online.de/media/thumbs2/eican/thb_Con_WTB_MPC3_2_PCB_THT_6620xx21122_pf2.jpg"  width="320"></a><p> / Details see: <a href="http://katalog.we-online.de/en/em/662_0xx_211_22">http://katalog.we-online.de/en/em/662_0xx_211_22</a><p> / Created 2014-06-06, Karrer Zheng<br> / 2014 (C) Würth Elektronik
footprint 66202221122
pins: 1, 2, 3, 4, 5 (oe), 6, 7, 8, 9, 10, 11, 12, 13, 14, 15, 16, 17, 18 (hiz), 19, 20, 21, 22

## 66202421022
designator J?, comment <b>WR-MPC3 3.00mm Male Dual Row Angled Header with Plastic Pegs, 24 Pins</b>=>Code : Con_WTB-MPC3_2_PCB_THT66202421022 / <br><a href="http://katalog.we-online.de/media/thumbs2/eican/thb_Con_WTB-MPC3_2_PCB_THT86220xx21022_pf2.jpg" title="Enlarge picture"> / <img src="http://katalog.we-online.de/media/thumbs2/eican/thb_Con_WTB-MPC3_2_PCB_THT86220xx21022_pf2.jpg"  width="320"></a><p> / Details see: <a href="http://katalog.we-online.de/en/em/662_0xx_210_22">http://katalog.we-online.de/en/em/662_0xx_210_22</a><p> / Created 2014-06-06, Karrer Zheng<br> / 2014 (C) Würth Elektronik
footprint 66202421022
pins: 1, 2, 3, 4, 5, 6, 7, 8, 9, 10, 11, 12, 13, 14, 15, 16, 17, 18, 19, 20, 21, 22, 23, 24

## 66202421122
designator J?, comment <b>WR-MPC3 3.00mm Male Dual Row Vertical Header, 24 Pins</b>=>Code : Con_WTB_MPC3_2_PCB_THT_66202421122 / <br><a href="http://katalog.we-online.de/media/thumbs2/eican/thb_Con_WTB_MPC3_2_PCB_THT_6620xx21122_pf2.jpg" title="Enlarge picture"> / <img src="http://katalog.we-online.de/media/thumbs2/eican/thb_Con_WTB_MPC3_2_PCB_THT_6620xx21122_pf2.jpg"  width="320"></a><p> / Details see: <a href="http://katalog.we-online.de/en/em/662_0xx_211_22">http://katalog.we-online.de/en/em/662_0xx_211_22</a><p> / Created 2014-06-06, Karrer Zheng<br> / 2014 (C) Würth Elektronik
footprint 66202421122
pins: 1, 2, 3, 4, 5, 6, 7, 8, 9, 10, 11, 12, 13, 14, 15, 16, 17, 18, 19, 20, 21, 22, 23, 24

## 68800211622
designator J?, comment <b><b> WR-WTB 2.50mm "J"Type Vertical Male Shrouded Header, 2 Pins</b>=>Code : WR-WTB_Stiftleiste_J_68800211622 / <br><a href="http://katalog.we-online.de/media/thumbs2/eican/thb_WR-WTB_Stiftleiste_J_68800116622.jpg" title="Enlarge picture"> / <img src="http://katalog.we-online.de/media/thumbs2/eican/thb_WR-WTB_Stiftleiste_J_68800116622.jpg"  width="320"></a><p> / Details see: <a href="http://katalog.we-online.de/en/em/688_0xx_116_22">http://katalog.we-online.de/en/em/688_0xx_116_22</a><p> / Created 2014-06-05, Karrer Zheng<br> / 2014 (C) Würth Elektronik
footprint 68800211622
pins: 1, 2

## 68800211722
designator J?, comment <b><b> WR-WTB 2.50mm "J"Type Male Horizontal Shrouded Header, 2 Pins</b>=>Code : WTB_2.50-J_PCB_THT_68800211722 / <br><a href="http://katalog.we-online.de/media/thumbs2/eican/thb_Con_WTB_2.50-J_PCB_THT_6880xx11722_pf2%20(2).jpg" title="Enlarge picture"> / <img src="http://katalog.we-online.de/media/thumbs2/eican/thb_Con_WTB_2.50-J_PCB_THT_6880xx11722_pf2%20(2).jpg"  width="320"></a><p> / Details see: <a href="http://katalog.we-online.de/en/em/688_0xx_117_22">http://katalog.we-online.de/en/em/688_0xx_117_22</a><p> / Created 2014-06-05, Karrer Zheng<br> / 2014 (C) Würth Elektronik
footprint 68800211722
pins: 1, 2

## 68800311622
designator J?, comment <b><b> WR-WTB 2.50mm "J"Type Vertical Male Shrouded Header, 3 Pins</b>=>Code : WR-WTB_Stiftleiste_J_68800311622 / <br><a href="http://katalog.we-online.de/media/thumbs2/eican/thb_WR-WTB_Stiftleiste_J_68800116622.jpg" title="Enlarge picture"> / <img src="http://katalog.we-online.de/media/thumbs2/eican/thb_WR-WTB_Stiftleiste_J_68800116622.jpg"  width="320"></a><p> / Details see: <a href="http://katalog.we-online.de/en/em/688_0xx_116_22">http://katalog.we-online.de/en/em/688_0xx_116_22</a><p> / Created 2014-06-05, Karrer Zheng<br> / 2014 (C) Würth Elektronik
footprint 68800311622
pins: 1, 2, 3

## 68800311722
designator J?, comment <b><b> WR-WTB 2.50mm "J"Type Male Horizontal Shrouded Header, 3 Pins</b>=>Code : WTB_2.50-J_PCB_THT_68800311722 / <br><a href="http://katalog.we-online.de/media/thumbs2/eican/thb_Con_WTB_2.50-J_PCB_THT_6880xx11722_pf2%20(2).jpg" title="Enlarge picture"> / <img src="http://katalog.we-online.de/media/thumbs2/eican/thb_Con_WTB_2.50-J_PCB_THT_6880xx11722_pf2%20(2).jpg"  width="320"></a><p> / Details see: <a href="http://katalog.we-online.de/en/em/688_0xx_117_22">http://katalog.we-online.de/en/em/688_0xx_117_22</a><p> / Created 2014-06-05, Karrer Zheng<br> / 2014 (C) Würth Elektronik
footprint 68800311722
pins: 1, 2, 3

## 68800411622
designator J?, comment <b><b> WR-WTB 2.50mm "J"Type Vertical Male Shrouded Header, 4 Pins</b>=>Code : WR-WTB_Stiftleiste_J_68800411622 / <br><a href="http://katalog.we-online.de/media/thumbs2/eican/thb_WR-WTB_Stiftleiste_J_68800116622.jpg" title="Enlarge picture"> / <img src="http://katalog.we-online.de/media/thumbs2/eican/thb_WR-WTB_Stiftleiste_J_68800116622.jpg"  width="320"></a><p> / Details see: <a href="http://katalog.we-online.de/en/em/688_0xx_116_22">http://katalog.we-online.de/en/em/688_0xx_116_22</a><p> / Created 2014-06-05, Karrer Zheng<br> / 2014 (C) Würth Elektronik
footprint 68800411622
pins: 1, 2, 3, 4

## 68800411722
designator J?, comment <b> WR-WTB 2.50mm "J"Type Male Horizontal Shrouded Header, 4 Pins</b>=>Code : WTB_2.50-J_PCB_THT_68800411722 / <br><a href="http://katalog.we-online.de/media/thumbs2/eican/thb_Con_WTB_2.50-J_PCB_THT_6880xx11722_pf2%20(2).jpg" title="Enlarge picture"> / <img src="http://katalog.we-online.de/media/thumbs2/eican/thb_Con_WTB_2.50-J_PCB_THT_6880xx11722_pf2%20(2).jpg"  width="320"></a><p> / Details see: <a href="http://katalog.we-online.de/en/em/688_0xx_117_22">http://katalog.we-online.de/en/em/688_0xx_117_22</a><p> / Created 2014-06-05, Karrer Zheng<br> / 2014 (C) Würth Elektronik
footprint 68800411722
pins: 1, 2, 3, 4

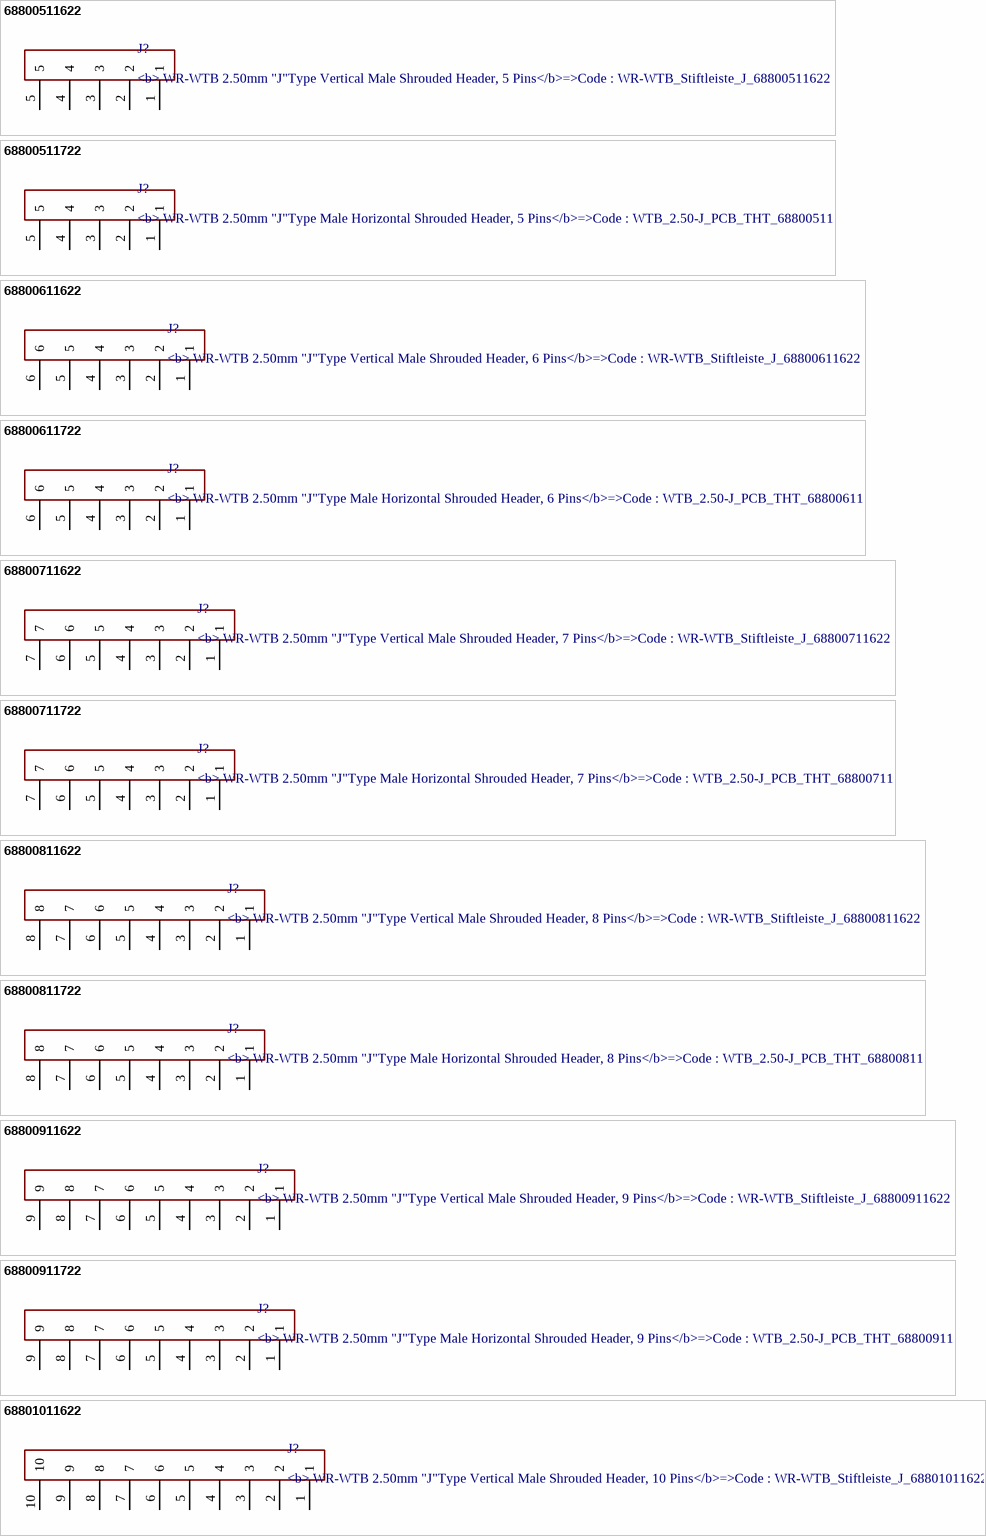
[diagram p37: symbols 68800511622 to 68801011622]

## 68800511622
designator J?, comment <b> WR-WTB 2.50mm "J"Type Vertical Male Shrouded Header, 5 Pins</b>=>Code : WR-WTB_Stiftleiste_J_68800511622 / <br><a href="http://katalog.we-online.de/media/thumbs2/eican/thb_WR-WTB_Stiftleiste_J_68800116622.jpg" title="Enlarge picture"> / <img src="http://katalog.we-online.de/media/thumbs2/eican/thb_WR-WTB_Stiftleiste_J_68800116622.jpg"  width="320"></a><p> / Details see: <a href="http://katalog.we-online.de/en/em/688_0xx_116_22">http://katalog.we-online.de/en/em/688_0xx_116_22</a><p> / Created 2014-06-05, Karrer Zheng<br> / 2014 (C) Würth Elektronik
footprint 68800511622
pins: 1, 2, 3, 4, 5

## 68800511722
designator J?, comment <b> WR-WTB 2.50mm "J"Type Male Horizontal Shrouded Header, 5 Pins</b>=>Code : WTB_2.50-J_PCB_THT_68800511722 / <br><a href="http://katalog.we-online.de/media/thumbs2/eican/thb_Con_WTB_2.50-J_PCB_THT_6880xx11722_pf2%20(2).jpg" title="Enlarge picture"> / <img src="http://katalog.we-online.de/media/thumbs2/eican/thb_Con_WTB_2.50-J_PCB_THT_6880xx11722_pf2%20(2).jpg"  width="320"></a><p> / Details see: <a href="http://katalog.we-online.de/en/em/688_0xx_117_22">http://katalog.we-online.de/en/em/688_0xx_117_22</a><p> / Created 2014-06-05, Karrer Zheng<br> / 2014 (C) Würth Elektronik
footprint 68800511722
pins: 1, 2, 3, 4, 5

## 68800611622
designator J?, comment <b> WR-WTB 2.50mm "J"Type Vertical Male Shrouded Header, 6 Pins</b>=>Code : WR-WTB_Stiftleiste_J_68800611622 / <br><a href="http://katalog.we-online.de/media/thumbs2/eican/thb_WR-WTB_Stiftleiste_J_68800116622.jpg" title="Enlarge picture"> / <img src="http://katalog.we-online.de/media/thumbs2/eican/thb_WR-WTB_Stiftleiste_J_68800116622.jpg"  width="320"></a><p> / Details see: <a href="http://katalog.we-online.de/en/em/688_0xx_116_22">http://katalog.we-online.de/en/em/688_0xx_116_22</a><p> / Created 2014-06-05, Karrer Zheng<br> / 2014 (C) Würth Elektronik
footprint 68800611622
pins: 1, 2, 3, 4, 5, 6

## 68800611722
designator J?, comment <b> WR-WTB 2.50mm "J"Type Male Horizontal Shrouded Header, 6 Pins</b>=>Code : WTB_2.50-J_PCB_THT_68800611722 / <br><a href="http://katalog.we-online.de/media/thumbs2/eican/thb_Con_WTB_2.50-J_PCB_THT_6880xx11722_pf2%20(2).jpg" title="Enlarge picture"> / <img src="http://katalog.we-online.de/media/thumbs2/eican/thb_Con_WTB_2.50-J_PCB_THT_6880xx11722_pf2%20(2).jpg"  width="320"></a><p> / Details see: <a href="http://katalog.we-online.de/en/em/688_0xx_117_22">http://katalog.we-online.de/en/em/688_0xx_117_22</a><p> / Created 2014-06-05, Karrer Zheng<br> / 2014 (C) Würth Elektronik
footprint 68800611722
pins: 1, 2, 3, 4, 5, 6

## 68800711622
designator J?, comment <b> WR-WTB 2.50mm "J"Type Vertical Male Shrouded Header, 7 Pins</b>=>Code : WR-WTB_Stiftleiste_J_68800711622 / <br><a href="http://katalog.we-online.de/media/thumbs2/eican/thb_WR-WTB_Stiftleiste_J_68800116622.jpg" title="Enlarge picture"> / <img src="http://katalog.we-online.de/media/thumbs2/eican/thb_WR-WTB_Stiftleiste_J_68800116622.jpg"  width="320"></a><p> / Details see: <a href="http://katalog.we-online.de/en/em/688_0xx_116_22">http://katalog.we-online.de/en/em/688_0xx_116_22</a><p> / Created 2014-06-05, Karrer Zheng<br> / 2014 (C) Würth Elektronik
footprint 68800711622
pins: 1, 2, 3, 4, 5, 6, 7

## 68800711722
designator J?, comment <b> WR-WTB 2.50mm "J"Type Male Horizontal Shrouded Header, 7 Pins</b>=>Code : WTB_2.50-J_PCB_THT_68800711722 / <br><a href="http://katalog.we-online.de/media/thumbs2/eican/thb_Con_WTB_2.50-J_PCB_THT_6880xx11722_pf2%20(2).jpg" title="Enlarge picture"> / <img src="http://katalog.we-online.de/media/thumbs2/eican/thb_Con_WTB_2.50-J_PCB_THT_6880xx11722_pf2%20(2).jpg"  width="320"></a><p> / Details see: <a href="http://katalog.we-online.de/en/em/688_0xx_117_22">http://katalog.we-online.de/en/em/688_0xx_117_22</a><p> / Created 2014-06-05, Karrer Zheng<br> / 2014 (C) Würth Elektronik
footprint 68800711722
pins: 1, 2, 3, 4, 5, 6, 7

## 68800811622
designator J?, comment <b> WR-WTB 2.50mm "J"Type Vertical Male Shrouded Header, 8 Pins</b>=>Code : WR-WTB_Stiftleiste_J_68800811622 / <br><a href="http://katalog.we-online.de/media/thumbs2/eican/thb_WR-WTB_Stiftleiste_J_68800116622.jpg" title="Enlarge picture"> / <img src="http://katalog.we-online.de/media/thumbs2/eican/thb_WR-WTB_Stiftleiste_J_68800116622.jpg"  width="320"></a><p> / Details see: <a href="http://katalog.we-online.de/en/em/688_0xx_116_22">http://katalog.we-online.de/en/em/688_0xx_116_22</a><p> / Created 2014-06-05, Karrer Zheng<br> / 2014 (C) Würth Elektronik
footprint 68800811622
pins: 1, 2, 3, 4, 5, 6, 7, 8

## 68800811722
designator J?, comment <b> WR-WTB 2.50mm "J"Type Male Horizontal Shrouded Header, 8 Pins</b>=>Code : WTB_2.50-J_PCB_THT_68800811722 / <br><a href="http://katalog.we-online.de/media/thumbs2/eican/thb_Con_WTB_2.50-J_PCB_THT_6880xx11722_pf2%20(2).jpg" title="Enlarge picture"> / <img src="http://katalog.we-online.de/media/thumbs2/eican/thb_Con_WTB_2.50-J_PCB_THT_6880xx11722_pf2%20(2).jpg"  width="320"></a><p> / Details see: <a href="http://katalog.we-online.de/en/em/688_0xx_117_22">http://katalog.we-online.de/en/em/688_0xx_117_22</a><p> / Created 2014-06-05, Karrer Zheng<br> / 2014 (C) Würth Elektronik
footprint 68800811722
pins: 1, 2, 3, 4, 5, 6, 7, 8

## 68800911622
designator J?, comment <b> WR-WTB 2.50mm "J"Type Vertical Male Shrouded Header, 9 Pins</b>=>Code : WR-WTB_Stiftleiste_J_68800911622 / <br><a href="http://katalog.we-online.de/media/thumbs2/eican/thb_WR-WTB_Stiftleiste_J_68800116622.jpg" title="Enlarge picture"> / <img src="http://katalog.we-online.de/media/thumbs2/eican/thb_WR-WTB_Stiftleiste_J_68800116622.jpg"  width="320"></a><p> / Details see: <a href="http://katalog.we-online.de/en/em/688_0xx_116_22">http://katalog.we-online.de/en/em/688_0xx_116_22</a><p> / Created 2014-06-05, Karrer Zheng<br> / 2014 (C) Würth Elektronik
footprint 68800911622
pins: 1, 2, 3, 4, 5, 6, 7, 8, 9

## 68800911722
designator J?, comment <b> WR-WTB 2.50mm "J"Type Male Horizontal Shrouded Header, 9 Pins</b>=>Code : WTB_2.50-J_PCB_THT_68800911722 / <br><a href="http://katalog.we-online.de/media/thumbs2/eican/thb_Con_WTB_2.50-J_PCB_THT_6880xx11722_pf2%20(2).jpg" title="Enlarge picture"> / <img src="http://katalog.we-online.de/media/thumbs2/eican/thb_Con_WTB_2.50-J_PCB_THT_6880xx11722_pf2%20(2).jpg"  width="320"></a><p> / Details see: <a href="http://katalog.we-online.de/en/em/688_0xx_117_22">http://katalog.we-online.de/en/em/688_0xx_117_22</a><p> / Created 2014-06-05, Karrer Zheng<br> / 2014 (C) Würth Elektronik
footprint 68800911722
pins: 1, 2, 3, 4, 5, 6, 7, 8, 9

## 68801011622
designator J?, comment <b> WR-WTB 2.50mm "J"Type Vertical Male Shrouded Header, 10 Pins</b>=>Code : WR-WTB_Stiftleiste_J_68801011622 / <br><a href="http://katalog.we-online.de/media/thumbs2/eican/thb_WR-WTB_Stiftleiste_J_68800116622.jpg" title="Enlarge picture"> / <img src="http://katalog.we-online.de/media/thumbs2/eican/thb_WR-WTB_Stiftleiste_J_68800116622.jpg"  width="320"></a><p> / Details see: <a href="http://katalog.we-online.de/en/em/688_0xx_116_22">http://katalog.we-online.de/en/em/688_0xx_116_22</a><p> / Created 2014-06-05, Karrer Zheng<br> / 2014 (C) Würth Elektronik
footprint 68801011622
pins: 1, 2, 3, 4, 5, 6, 7, 8, 9, 10

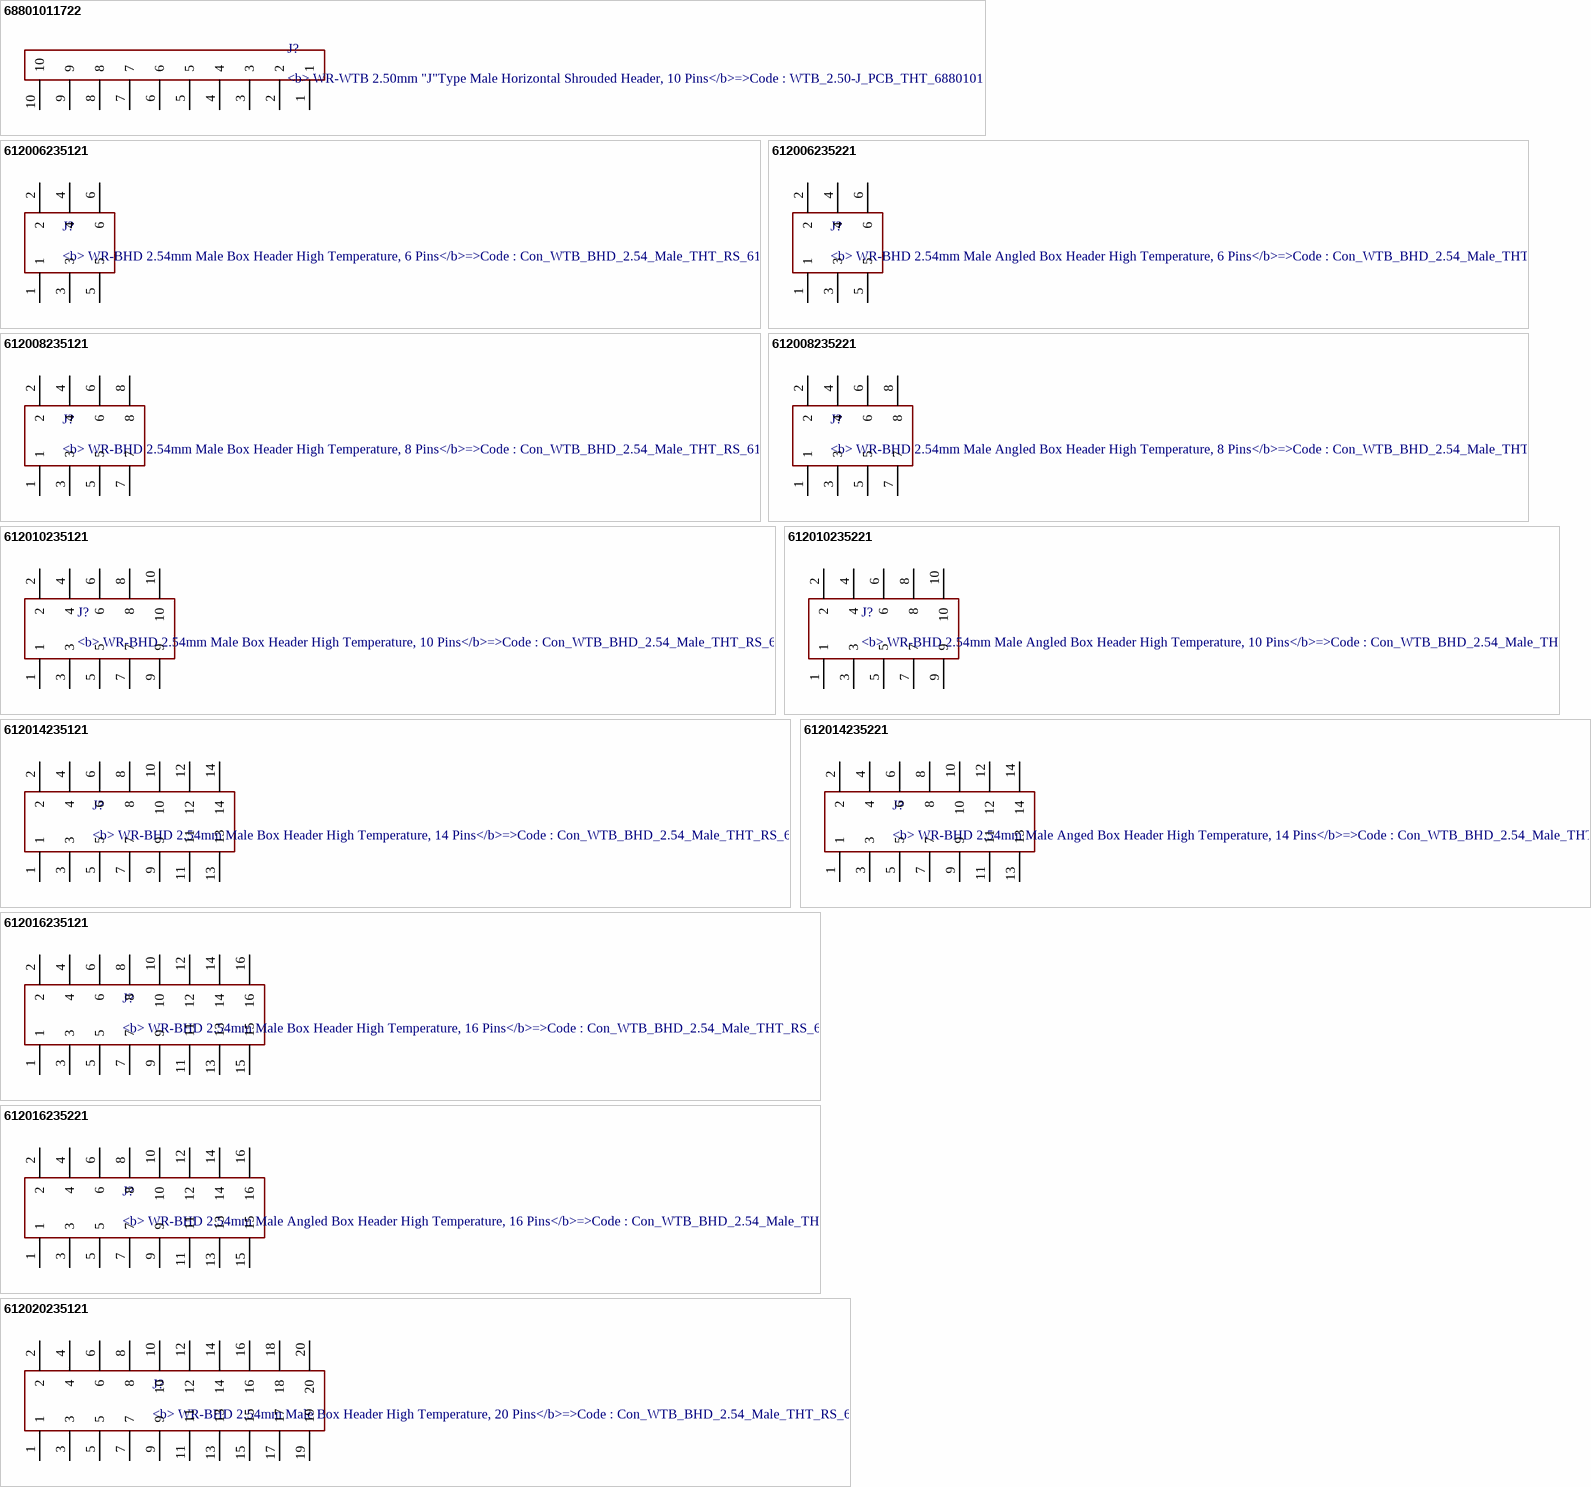
[diagram p38: symbols 68801011722 to 612020235121]

## 68801011722
designator J?, comment <b> WR-WTB 2.50mm "J"Type Male Horizontal Shrouded Header, 10 Pins</b>=>Code : WTB_2.50-J_PCB_THT_68801011722 / <br><a href="http://katalog.we-online.de/media/thumbs2/eican/thb_Con_WTB_2.50-J_PCB_THT_6880xx11722_pf2%20(2).jpg" title="Enlarge picture"> / <img src="http://katalog.we-online.de/media/thumbs2/eican/thb_Con_WTB_2.50-J_PCB_THT_6880xx11722_pf2%20(2).jpg"  width="320"></a><p> / Details see: <a href="http://katalog.we-online.de/en/em/688_0xx_117_22">http://katalog.we-online.de/en/em/688_0xx_117_22</a><p> / Created 2014-06-05, Karrer Zheng<br> / 2014 (C) Würth Elektronik
footprint 68801011722
pins: 1, 2, 3, 4, 5, 6, 7, 8, 9, 10

## 612006235121
designator J?, comment <b> WR-BHD 2.54mm Male Box Header High Temperature, 6 Pins</b>=>Code : Con_WTB_BHD_2.54_Male_THT_RS_612006235121 / <br><a href="http://katalog.we-online.de/media/thumbs2/eican/thb_Con_WTB_BHD_2.54_Male_THT_RS_6120xx235121_pf2.jpg" title="Enlarge picture"> / <img src="http://katalog.we-online.de/media/thumbs2/eican/thb_Con_WTB_BHD_2.54_Male_THT_RS_6120xx235121_pf2.jpg"  width="320"></a><p> / Details see: <a href="http://katalog.we-online.de/en/em/612_0xx_235_121">http://katalog.we-online.de/en/em/612_0xx_235_121</a><p> / Created 2014-06-05, Karrer Zheng<br> / 2014 (C) Würth Elektronik
footprint 612006235121
pins: 1, 2, 3, 4, 5, 6

## 612006235221
designator J?, comment <b> WR-BHD 2.54mm Male Angled Box Header High Temperature, 6 Pins</b>=>Code : Con_WTB_BHD_2.54_Male_THT_RS_612006235221 / <br><a href="http://katalog.we-online.de/media/thumbs2/eican/thb_Con_WTB_BHD_2.54_Male_THT_RS_6120xx235221_pf2.jpg" title="Enlarge picture"> / <img src="http://katalog.we-online.de/media/thumbs2/eican/thb_Con_WTB_BHD_2.54_Male_THT_RS_6120xx235221_pf2.jpg"  width="320"></a><p> / Details see: <a href="http://katalog.we-online.de/en/em/612_0xx_235_221">http://katalog.we-online.de/en/em/612_0xx_235_221</a><p> / Created 2014-06-05, Karrer Zheng<br> / 2014 (C) Würth Elektronik
footprint 612006235221
pins: 1, 2, 3, 4, 5, 6

## 612008235121
designator J?, comment <b> WR-BHD 2.54mm Male Box Header High Temperature, 8 Pins</b>=>Code : Con_WTB_BHD_2.54_Male_THT_RS_612008235121 / <br><a href="http://katalog.we-online.de/media/thumbs2/eican/thb_Con_WTB_BHD_2.54_Male_THT_RS_6120xx235121_pf2.jpg" title="Enlarge picture"> / <img src="http://katalog.we-online.de/media/thumbs2/eican/thb_Con_WTB_BHD_2.54_Male_THT_RS_6120xx235121_pf2.jpg"  width="320"></a><p> / Details see: <a href="http://katalog.we-online.de/en/em/612_0xx_235_121">http://katalog.we-online.de/en/em/612_0xx_235_121</a><p> / Created 2014-06-05, Karrer Zheng<br> / 2014 (C) Würth Elektronik
footprint 612008235121
pins: 1, 2, 3, 4, 5, 6, 7, 8

## 612008235221
designator J?, comment <b> WR-BHD 2.54mm Male Angled Box Header High Temperature, 8 Pins</b>=>Code : Con_WTB_BHD_2.54_Male_THT_RS_612008235221 / <br><a href="http://katalog.we-online.de/media/thumbs2/eican/thb_Con_WTB_BHD_2.54_Male_THT_RS_6120xx235221_pf2.jpg" title="Enlarge picture"> / <img src="http://katalog.we-online.de/media/thumbs2/eican/thb_Con_WTB_BHD_2.54_Male_THT_RS_6120xx235221_pf2.jpg"  width="320"></a><p> / Details see: <a href="http://katalog.we-online.de/en/em/612_0xx_235_221">http://katalog.we-online.de/en/em/612_0xx_235_221</a><p> / Created 2014-06-05, Karrer Zheng<br> / 2014 (C) Würth Elektronik
footprint 612008235221
pins: 1, 2, 3, 4, 5, 6, 7, 8

## 612010235121
designator J?, comment <b> WR-BHD 2.54mm Male Box Header High Temperature, 10 Pins</b>=>Code : Con_WTB_BHD_2.54_Male_THT_RS_612010235121 / <br><a href="http://katalog.we-online.de/media/thumbs2/eican/thb_Con_WTB_BHD_2.54_Male_THT_RS_6120xx235121_pf2.jpg" title="Enlarge picture"> / <img src="http://katalog.we-online.de/media/thumbs2/eican/thb_Con_WTB_BHD_2.54_Male_THT_RS_6120xx235121_pf2.jpg"  width="320"></a><p> / Details see: <a href="http://katalog.we-online.de/en/em/612_0xx_235_121">http://katalog.we-online.de/en/em/612_0xx_235_121</a><p> / Created 2014-06-05, Karrer Zheng<br> / 2014 (C) Würth Elektronik
footprint 612010235121
pins: 1, 2, 3, 4, 5, 6, 7, 8, 9, 10

## 612010235221
designator J?, comment <b> WR-BHD 2.54mm Male Angled Box Header High Temperature, 10 Pins</b>=>Code : Con_WTB_BHD_2.54_Male_THT_RS_612010235221 / <br><a href="http://katalog.we-online.de/media/thumbs2/eican/thb_Con_WTB_BHD_2.54_Male_THT_RS_6120xx235221_pf2.jpg" title="Enlarge picture"> / <img src="http://katalog.we-online.de/media/thumbs2/eican/thb_Con_WTB_BHD_2.54_Male_THT_RS_6120xx235221_pf2.jpg"  width="320"></a><p> / Details see: <a href="http://katalog.we-online.de/en/em/612_0xx_235_221">http://katalog.we-online.de/en/em/612_0xx_235_221</a><p> / Created 2014-06-05, Karrer Zheng<br> / 2014 (C) Würth Elektronik
footprint 612010235221
pins: 1, 2, 3, 4, 5, 6, 7, 8, 9, 10

## 612014235121
designator J?, comment <b> WR-BHD 2.54mm Male Box Header High Temperature, 14 Pins</b>=>Code : Con_WTB_BHD_2.54_Male_THT_RS_612014235121 / <br><a href="http://katalog.we-online.de/media/thumbs2/eican/thb_Con_WTB_BHD_2.54_Male_THT_RS_6120xx235121_pf2.jpg" title="Enlarge picture"> / <img src="http://katalog.we-online.de/media/thumbs2/eican/thb_Con_WTB_BHD_2.54_Male_THT_RS_6120xx235121_pf2.jpg"  width="320"></a><p> / Details see: <a href="http://katalog.we-online.de/en/em/612_0xx_235_121">http://katalog.we-online.de/en/em/612_0xx_235_121</a><p> / Created 2014-06-05, Karrer Zheng<br> / 2014 (C) Würth Elektronik
footprint 612014235121
pins: 1, 2, 3, 4, 5, 6, 7, 8, 9, 10, 11, 12, 13, 14

## 612014235221
designator J?, comment <b> WR-BHD 2.54mm Male Anged Box Header High Temperature, 14 Pins</b>=>Code : Con_WTB_BHD_2.54_Male_THT_RS_612014235221 / <br><a href="http://katalog.we-online.de/media/thumbs2/eican/thb_Con_WTB_BHD_2.54_Male_THT_RS_6120xx235221_pf2.jpg" title="Enlarge picture"> / <img src="http://katalog.we-online.de/media/thumbs2/eican/thb_Con_WTB_BHD_2.54_Male_THT_RS_6120xx235221_pf2.jpg"  width="320"></a><p> / Details see: <a href="http://katalog.we-online.de/en/em/612_0xx_235_221">http://katalog.we-online.de/en/em/612_0xx_235_221</a><p> / Created 2014-06-05, Karrer Zheng<br> / 2014 (C) Würth Elektronik
footprint 612014235221
pins: 1, 2, 3, 4, 5, 6, 7, 8, 9, 10, 11, 12, 13, 14

## 612016235121
designator J?, comment <b> WR-BHD 2.54mm Male Box Header High Temperature, 16 Pins</b>=>Code : Con_WTB_BHD_2.54_Male_THT_RS_612016235121 / <br><a href="http://katalog.we-online.de/media/thumbs2/eican/thb_Con_WTB_BHD_2.54_Male_THT_RS_6120xx235121_pf2.jpg" title="Enlarge picture"> / <img src="http://katalog.we-online.de/media/thumbs2/eican/thb_Con_WTB_BHD_2.54_Male_THT_RS_6120xx235121_pf2.jpg"  width="320"></a><p> / Details see: <a href="http://katalog.we-online.de/en/em/612_0xx_235_121">http://katalog.we-online.de/en/em/612_0xx_235_121</a><p> / Created 2014-06-05, Karrer Zheng<br> / 2014 (C) Würth Elektronik
footprint 612016235121
pins: 1, 2, 3, 4, 5, 6, 7, 8, 9, 10, 11, 12, 13, 14, 15, 16

## 612016235221
designator J?, comment <b> WR-BHD 2.54mm Male Angled Box Header High Temperature, 16 Pins</b>=>Code : Con_WTB_BHD_2.54_Male_THT_RS_612016235221 / <br><a href="http://katalog.we-online.de/media/thumbs2/eican/thb_Con_WTB_BHD_2.54_Male_THT_RS_6120xx235221_pf2.jpg" title="Enlarge picture"> / <img src="http://katalog.we-online.de/media/thumbs2/eican/thb_Con_WTB_BHD_2.54_Male_THT_RS_6120xx235221_pf2.jpg"  width="320"></a><p> / Details see: <a href="http://katalog.we-online.de/en/em/612_0xx_235_221">http://katalog.we-online.de/en/em/612_0xx_235_221</a><p> / Created 2014-06-05, Karrer Zheng<br> / 2014 (C) Würth Elektronik
footprint 612016235221
pins: 1, 2, 3, 4, 5, 6, 7, 8, 9, 10, 11, 12, 13, 14, 15, 16

## 612020235121
designator J?, comment <b> WR-BHD 2.54mm Male Box Header High Temperature, 20 Pins</b>=>Code : Con_WTB_BHD_2.54_Male_THT_RS_612020235121 / <br><a href="http://katalog.we-online.de/media/thumbs2/eican/thb_Con_WTB_BHD_2.54_Male_THT_RS_6120xx235121_pf2.jpg" title="Enlarge picture"> / <img src="http://katalog.we-online.de/media/thumbs2/eican/thb_Con_WTB_BHD_2.54_Male_THT_RS_6120xx235121_pf2.jpg"  width="320"></a><p> / Details see: <a href="http://katalog.we-online.de/en/em/612_0xx_235_121">http://katalog.we-online.de/en/em/612_0xx_235_121</a><p> / Created 2014-06-05, Karrer Zheng<br> / 2014 (C) Würth Elektronik
footprint 612020235121
pins: 1, 2, 3, 4, 5, 6, 7, 8, 9, 10, 11, 12, 13, 14, 15, 16, 17, 18, 19, 20

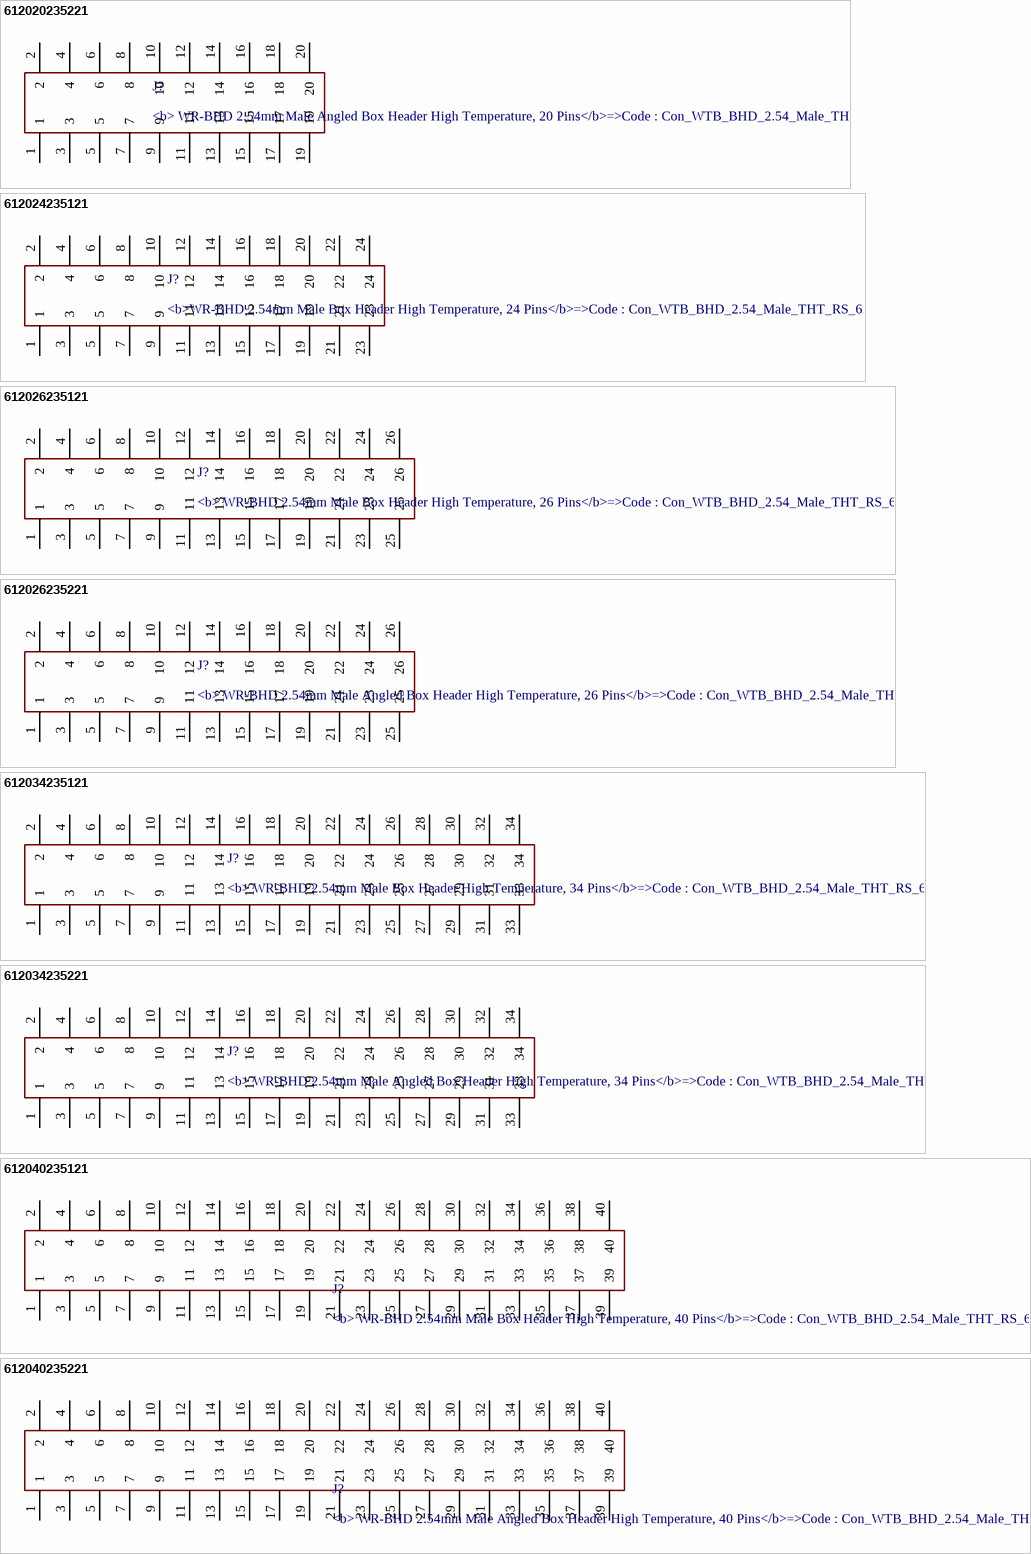
[diagram p39: symbols 612020235221 to 612040235221]

## 612020235221
designator J?, comment <b> WR-BHD 2.54mm Male Angled Box Header High Temperature, 20 Pins</b>=>Code : Con_WTB_BHD_2.54_Male_THT_RS_612020235221 / <br><a href="http://katalog.we-online.de/media/thumbs2/eican/thb_Con_WTB_BHD_2.54_Male_THT_RS_6120xx235221_pf2.jpg" title="Enlarge picture"> / <img src="http://katalog.we-online.de/media/thumbs2/eican/thb_Con_WTB_BHD_2.54_Male_THT_RS_6120xx235221_pf2.jpg"  width="320"></a><p> / Details see: <a href="http://katalog.we-online.de/en/em/612_0xx_235_221">http://katalog.we-online.de/en/em/612_0xx_235_221</a><p> / Created 2014-06-05, Karrer Zheng<br> / 2014 (C) Würth Elektronik
footprint 612020235221
pins: 1, 2, 3, 4, 5, 6, 7, 8, 9, 10, 11, 12, 13, 14, 15, 16, 17, 18, 19, 20